# Altium integrated library Renesas Microcontroller H8S.IntLib: 670 symbols (part 35 of 70)
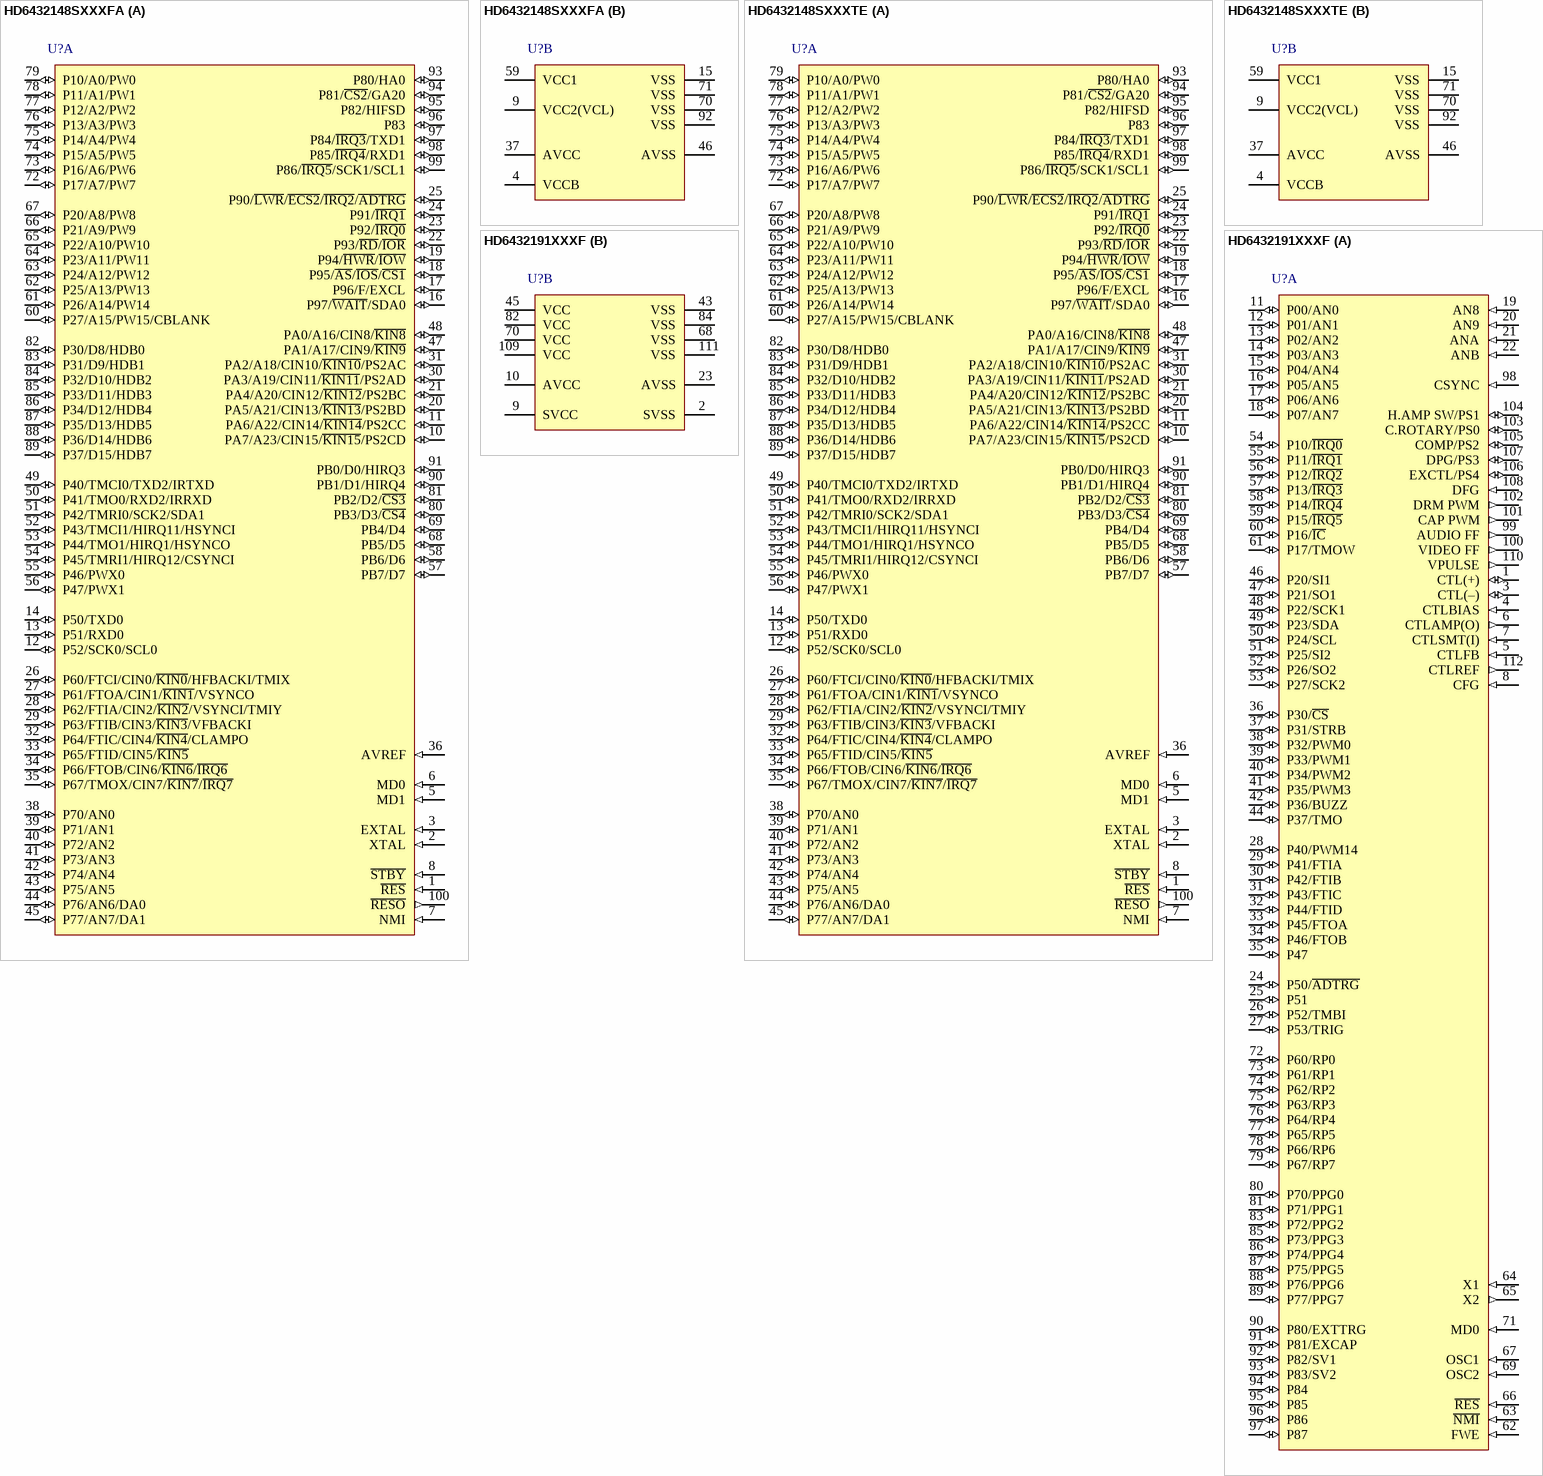
[diagram p262: symbols HD6432148SXXXFA to HD6432191XXXF]

## HD6432148SXXXTE
designator U?
Mask ROM H8S/2100 Series, 2148 Group MCU, 128K ROM, 4K RAM, TFP-100B Pkg; Published: 28-Aug-2009; DatasheetVersion: Rev.4.00, Sep-2006; PackageVersion: Sep-2005; PackageReference: PTQP0100KA-A; Publisher: Altium Limited; PackageDescription: 100-Pin Plastic Thin Quad Flat Pack, 14 x 14 x 1.0 mm Body, 0.5 mm Pitch; Code_JEITA: P-TQFP100-14x14-0.50; ComponentLink1Description: Manufacturer Link; ComponentLink1URL: http://sg.renesas.com/fmwk.jsp?cnt=h8s_family_landing.jsp&fp=/products/mpumcu/h8s_family/; ComponentLink2Description: Datasheet; ComponentLink2URL: http://documentation.renesas.com/eng/products/mpumcu/rej09b0327_2148hm.pdf; ComponentLink3Description: Packaging Specification; ComponentLink3URL: http://sg.renesas.com/media/products/common_info/package/pdf/ic/code/ptqp0100ka_a.pdf
footprint PTQP0100KA-A_N (Thin QFP, 100-Leads, Body 14x14mm, Pitch 0.5mm, IPC Medium Density)
footprint PTQP0100KA-A_L (Thin QFP, 100-Leads, Body 14x14mm, Pitch 0.5mm, IPC High Density)
footprint PTQP0100KA-A_M (Thin QFP, 100-Leads, Body 14x14mm, Pitch 0.5mm, IPC Low Density)
part A pins: 1 ~{RES} (in), 2 XTAL (in), 3 EXTAL (in), 5 MD1 (in), 6 MD0 (in), 7 NMI (in), 8 ~{STBY} (in), 10 PA7/A23/CIN15/~{KIN15}/PS2CD (io), 11 PA6/A22/CIN14/~{KIN14}/PS2CC (io), 12 P52/SCK0/SCL0 (io), 13 P51/RXD0 (io), 14 P50/TXD0 (io), 16 P97/~{WAIT}/SDA0 (io), 17 P96/F/EXCL (io), 18 P95/~{AS}/~{IOS}/~{CS1} (io), 19 P94/~{HWR}/~{IOW} (io), 20 PA5/A21/CIN13/~{KIN13}/PS2BD (io), 21 PA4/A20/CIN12/~{KIN12}/PS2BC (io), 22 P93/~{RD}/~{IOR} (io), 23 P92/~{IRQ0} (io), 24 P91/~{IRQ1} (io), 25 P90/~{LWR}/~{ECS2}/~{IRQ2}/~{ADTRG} (io), 26 P60/FTCI/CIN0/~{KIN0}/HFBACKI/TMIX (io), 27 P61/FTOA/CIN1/~{KIN1}/VSYNCO (io), 28 P62/FTIA/CIN2/~{KIN2}/VSYNCI/TMIY (io), 29 P63/FTIB/CIN3/~{KIN3}/VFBACKI (io), 30 PA3/A19/CIN11/~{KIN11}/PS2AD (io), 31 PA2/A18/CIN10/~{KIN10}/PS2AC (io), 32 P64/FTIC/CIN4/~{KIN4}/CLAMPO (io), 33 P65/FTID/CIN5/~{KIN5} (io), 34 P66/FTOB/CIN6/~{KIN6}/~{IRQ6} (io), 35 P67/TMOX/CIN7/~{KIN7}/~{IRQ7} (io), 36 AVREF (in), 38 P70/AN0 (io), 39 P71/AN1 (io), 40 P72/AN2 (io), 41 P73/AN3 (io), 42 P74/AN4 (io), 43 P75/AN5 (io), 44 P76/AN6/DA0 (io), 45 P77/AN7/DA1 (io), 47 PA1/A17/CIN9/~{KIN9} (io), 48 PA0/A16/CIN8/~{KIN8} (io), 49 P40/TMCI0/TXD2/IRTXD (io), 50 P41/TMO0/RXD2/IRRXD (io), 51 P42/TMRI0/SCK2/SDA1 (io), 52 P43/TMCI1/HIRQ11/HSYNCI (io), 53 P44/TMO1/HIRQ1/HSYNCO (io), 54 P45/TMRI1/HIRQ12/CSYNCI (io), 55 P46/PWX0 (io), 56 P47/PWX1 (io), 57 PB7/D7 (io), 58 PB6/D6 (io), 60 P27/A15/PW15/CBLANK (io), 61 P26/A14/PW14 (io), 62 P25/A13/PW13 (io), 63 P24/A12/PW12 (io), 64 P23/A11/PW11 (io), 65 P22/A10/PW10 (io), 66 P21/A9/PW9 (io), 67 P20/A8/PW8 (io), 68 PB5/D5 (io), 69 PB4/D4 (io), 72 P17/A7/PW7 (io), 73 P16/A6/PW6 (io), 74 P15/A5/PW5 (io), 75 P14/A4/PW4 (io), 76 P13/A3/PW3 (io), 77 P12/A2/PW2 (io), 78 P11/A1/PW1 (io), 79 P10/A0/PW0 (io), 80 PB3/D3/~{CS4} (io), 81 PB2/D2/~{CS3} (io), 82 P30/D8/HDB0 (io), 83 P31/D9/HDB1 (io), 84 P32/D10/HDB2 (io), 85 P33/D11/HDB3 (io), 86 P34/D12/HDB4 (io), 87 P35/D13/HDB5 (io), 88 P36/D14/HDB6 (io), 89 P37/D15/HDB7 (io), 90 PB1/D1/HIRQ4 (io), 91 PB0/D0/HIRQ3 (io), 93 P80/HA0 (io), 94 P81/~{CS2}/GA20 (io), 95 P82/HIFSD (io), 96 P83 (io), 97 P84/~{IRQ3}/TXD1 (io), 98 P85/~{IRQ4}/RXD1 (io), 99 P86/~{IRQ5}/SCK1/SCL1 (io), 100 ~{RESO} (out)
part B pins: 4 VCCB (power), 9 VCC2(VCL), 15 VSS (power), 37 AVCC (power), 46 AVSS (power), 59 VCC1 (power), 70 VSS (power), 71 VSS (power), 92 VSS (power)

## HD6432191XXXF
designator U?
Mask ROM H8S/2100 Series, 2194 Group MCU, 80K ROM, 3K RAM, FP-112 Pkg; Published: 28-Aug-2009; DatasheetVersion: Rev.3.00, Jan-2007; PackageVersion: Sep-2005; PackageReference: PRQP0112JA-A; Publisher: Altium Limited; PackageDescription: 112-Pin Plastic Quad Flat Pack, 20 x 20 x 2.7 mm Body, 0.65 mm Pitch; Code_JEITA: P-QFP112-20x20-0.65; ComponentLink1Description: Manufacturer Link; ComponentLink1URL: http://sg.renesas.com/fmwk.jsp?cnt=h8s_family_landing.jsp&fp=/products/mpumcu/h8s_family/; ComponentLink2Description: Datasheet; ComponentLink2URL: http://documentation.renesas.com/eng/products/mpumcu/rej09b0328_2194hm.pdf; ComponentLink3Description: Packaging Specification; ComponentLink3URL: http://sg.renesas.com/media/products/common_info/package/pdf/ic/code/prqp0112ja_a.pdf
footprint PRQP0112JA-A_N (QFP, 112-Leads, Body 20x20mm, Pitch 0.65mm, IPC Medium Density)
footprint PRQP0112JA-A_L (QFP, 112-Leads, Body 20x20mm, Pitch 0.65mm, IPC High Density)
footprint PRQP0112JA-A_M (QFP, 112-Leads, Body 20x20mm, Pitch 0.65mm, IPC Low Density)
part A pins: 1 CTL(+) (io), 3 CTL(–) (io), 4 CTLBIAS (in), 5 CTLFB (in), 6 CTLAMP(O) (out), 7 CTLSMT(I) (in), 8 CFG (in), 11 P00/AN0 (io), 12 P01/AN1 (io), 13 P02/AN2 (io), 14 P03/AN3 (io), 15 P04/AN4 (io), 16 P05/AN5 (io), 17 P06/AN6 (io), 18 P07/AN7 (io), 19 AN8 (in), 20 AN9 (in), 21 ANA (in), 22 ANB (in), 24 P50/~{ADTRG} (io), 25 P51 (io), 26 P52/TMBI (io), 27 P53/TRIG (io), 28 P40/PWM14 (io), 29 P41/FTIA (io), 30 P42/FTIB (io), 31 P43/FTIC (io), 32 P44/FTID (io), 33 P45/FTOA (io), 34 P46/FTOB (io), 35 P47 (io), 36 P30/~{CS} (io), 37 P31/STRB (io), 38 P32/PWM0 (io), 39 P33/PWM1 (io), 40 P34/PWM2 (io), 41 P35/PWM3 (io), 42 P36/BUZZ (io), 44 P37/TMO (io), 46 P20/SI1 (io), 47 P21/SO1 (io), 48 P22/SCK1 (io), 49 P23/SDA (io), 50 P24/SCL (io), 51 P25/SI2 (io), 52 P26/SO2 (io), 53 P27/SCK2 (io), 54 P10/~{IRQ0} (io), 55 P11/~{IRQ1} (io), 56 P12/~{IRQ2} (io), 57 P13/~{IRQ3} (io), 58 P14/~{IRQ4} (io), 59 P15/~{IRQ5} (io), 60 P16/~{IC} (io), 61 P17/TMOW (io), 62 FWE (in), 63 ~{NMI} (in), 64 X1 (in), 65 X2 (out), 66 ~{RES} (in), 67 OSC1 (in), 69 OSC2 (in), 71 MD0 (in), 72 P60/RP0 (io), 73 P61/RP1 (io), 74 P62/RP2 (io), 75 P63/RP3 (io), 76 P64/RP4 (io), 77 P65/RP5 (io), 78 P66/RP6 (io), 79 P67/RP7 (io), 80 P70/PPG0 (io), 81 P71/PPG1 (io), 83 P72/PPG2 (io), 85 P73/PPG3 (io), 86 P74/PPG4 (io), 87 P75/PPG5 (io), 88 P76/PPG6 (io), 89 P77/PPG7 (io), 90 P80/EXTTRG (io), 91 P81/EXCAP (io), 92 P82/SV1 (io), 93 P83/SV2 (io), 94 P84 (io), 95 P85 (io), 96 P86 (io), 97 P87 (io), 98 CSYNC (in), 99 AUDIO FF (out), 100 VIDEO FF (out), 101 CAP PWM (out), 102 DRM PWM (out), 103 C.ROTARY/PS0 (io), 104 H.AMP SW/PS1 (io), 105 COMP/PS2 (io), 106 EXCTL/PS4 (io), 107 DPG/PS3 (io), 108 DFG (in), 110 VPULSE (out), 112 CTLREF (out)
part B pins: 2 SVSS (power), 9 SVCC (power), 10 AVCC (power), 23 AVSS (power), 43 VSS (power), 45 VCC (power), 68 VSS (power), 70 VCC (power), 82 VCC (power), 84 VSS (power), 109 VCC (power), 111 VSS (power)

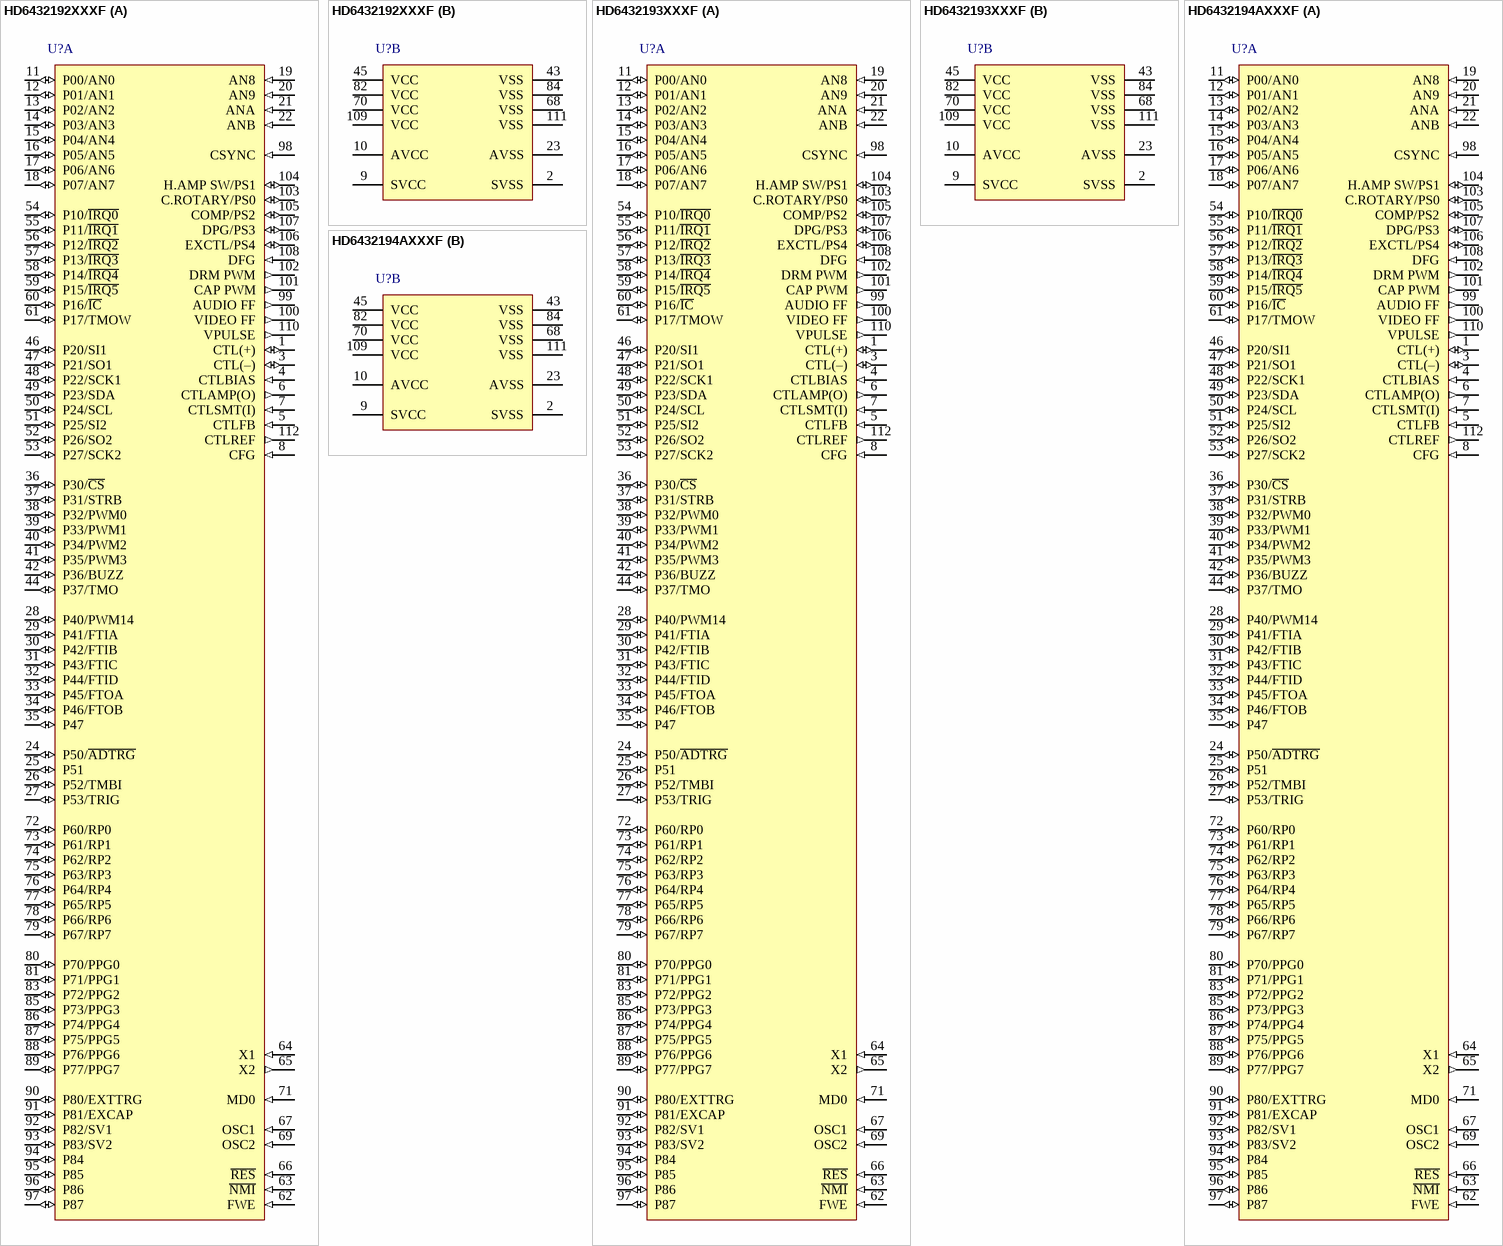
[diagram p120: symbols HD6432192XXXF to HD6432194AXXXF]

## HD6432192XXXF
designator U?
Mask ROM H8S/2100 Series, 2194 Group MCU, 96K ROM, 3K RAM, FP-112 Pkg; Published: 28-Aug-2009; DatasheetVersion: Rev.3.00, Jan-2007; PackageVersion: Sep-2005; PackageReference: PRQP0112JA-A; Publisher: Altium Limited; PackageDescription: 112-Pin Plastic Quad Flat Pack, 20 x 20 x 2.7 mm Body, 0.65 mm Pitch; Code_JEITA: P-QFP112-20x20-0.65; ComponentLink1Description: Manufacturer Link; ComponentLink1URL: http://sg.renesas.com/fmwk.jsp?cnt=h8s_family_landing.jsp&fp=/products/mpumcu/h8s_family/; ComponentLink2Description: Datasheet; ComponentLink2URL: http://documentation.renesas.com/eng/products/mpumcu/rej09b0328_2194hm.pdf; ComponentLink3Description: Packaging Specification; ComponentLink3URL: http://sg.renesas.com/media/products/common_info/package/pdf/ic/code/prqp0112ja_a.pdf
footprint PRQP0112JA-A_N (QFP, 112-Leads, Body 20x20mm, Pitch 0.65mm, IPC Medium Density)
footprint PRQP0112JA-A_L (QFP, 112-Leads, Body 20x20mm, Pitch 0.65mm, IPC High Density)
footprint PRQP0112JA-A_M (QFP, 112-Leads, Body 20x20mm, Pitch 0.65mm, IPC Low Density)
part A pins: 1 CTL(+) (io), 3 CTL(–) (io), 4 CTLBIAS (in), 5 CTLFB (in), 6 CTLAMP(O) (out), 7 CTLSMT(I) (in), 8 CFG (in), 11 P00/AN0 (io), 12 P01/AN1 (io), 13 P02/AN2 (io), 14 P03/AN3 (io), 15 P04/AN4 (io), 16 P05/AN5 (io), 17 P06/AN6 (io), 18 P07/AN7 (io), 19 AN8 (in), 20 AN9 (in), 21 ANA (in), 22 ANB (in), 24 P50/~{ADTRG} (io), 25 P51 (io), 26 P52/TMBI (io), 27 P53/TRIG (io), 28 P40/PWM14 (io), 29 P41/FTIA (io), 30 P42/FTIB (io), 31 P43/FTIC (io), 32 P44/FTID (io), 33 P45/FTOA (io), 34 P46/FTOB (io), 35 P47 (io), 36 P30/~{CS} (io), 37 P31/STRB (io), 38 P32/PWM0 (io), 39 P33/PWM1 (io), 40 P34/PWM2 (io), 41 P35/PWM3 (io), 42 P36/BUZZ (io), 44 P37/TMO (io), 46 P20/SI1 (io), 47 P21/SO1 (io), 48 P22/SCK1 (io), 49 P23/SDA (io), 50 P24/SCL (io), 51 P25/SI2 (io), 52 P26/SO2 (io), 53 P27/SCK2 (io), 54 P10/~{IRQ0} (io), 55 P11/~{IRQ1} (io), 56 P12/~{IRQ2} (io), 57 P13/~{IRQ3} (io), 58 P14/~{IRQ4} (io), 59 P15/~{IRQ5} (io), 60 P16/~{IC} (io), 61 P17/TMOW (io), 62 FWE (in), 63 ~{NMI} (in), 64 X1 (in), 65 X2 (out), 66 ~{RES} (in), 67 OSC1 (in), 69 OSC2 (in), 71 MD0 (in), 72 P60/RP0 (io), 73 P61/RP1 (io), 74 P62/RP2 (io), 75 P63/RP3 (io), 76 P64/RP4 (io), 77 P65/RP5 (io), 78 P66/RP6 (io), 79 P67/RP7 (io), 80 P70/PPG0 (io), 81 P71/PPG1 (io), 83 P72/PPG2 (io), 85 P73/PPG3 (io), 86 P74/PPG4 (io), 87 P75/PPG5 (io), 88 P76/PPG6 (io), 89 P77/PPG7 (io), 90 P80/EXTTRG (io), 91 P81/EXCAP (io), 92 P82/SV1 (io), 93 P83/SV2 (io), 94 P84 (io), 95 P85 (io), 96 P86 (io), 97 P87 (io), 98 CSYNC (in), 99 AUDIO FF (out), 100 VIDEO FF (out), 101 CAP PWM (out), 102 DRM PWM (out), 103 C.ROTARY/PS0 (io), 104 H.AMP SW/PS1 (io), 105 COMP/PS2 (io), 106 EXCTL/PS4 (io), 107 DPG/PS3 (io), 108 DFG (in), 110 VPULSE (out), 112 CTLREF (out)
part B pins: 2 SVSS (power), 9 SVCC (power), 10 AVCC (power), 23 AVSS (power), 43 VSS (power), 45 VCC (power), 68 VSS (power), 70 VCC (power), 82 VCC (power), 84 VSS (power), 109 VCC (power), 111 VSS (power)

## HD6432193XXXF
designator U?
Mask ROM H8S/2100 Series, 2194 Group MCU, 112K ROM, 3K RAM, FP-112 Pkg; Published: 28-Aug-2009; DatasheetVersion: Rev.3.00, Jan-2007; PackageVersion: Sep-2005; PackageReference: PRQP0112JA-A; Publisher: Altium Limited; PackageDescription: 112-Pin Plastic Quad Flat Pack, 20 x 20 x 2.7 mm Body, 0.65 mm Pitch; Code_JEITA: P-QFP112-20x20-0.65; ComponentLink1Description: Manufacturer Link; ComponentLink1URL: http://sg.renesas.com/fmwk.jsp?cnt=h8s_family_landing.jsp&fp=/products/mpumcu/h8s_family/; ComponentLink2Description: Datasheet; ComponentLink2URL: http://documentation.renesas.com/eng/products/mpumcu/rej09b0328_2194hm.pdf; ComponentLink3Description: Packaging Specification; ComponentLink3URL: http://sg.renesas.com/media/products/common_info/package/pdf/ic/code/prqp0112ja_a.pdf
footprint PRQP0112JA-A_N (QFP, 112-Leads, Body 20x20mm, Pitch 0.65mm, IPC Medium Density)
footprint PRQP0112JA-A_L (QFP, 112-Leads, Body 20x20mm, Pitch 0.65mm, IPC High Density)
footprint PRQP0112JA-A_M (QFP, 112-Leads, Body 20x20mm, Pitch 0.65mm, IPC Low Density)
part A pins: 1 CTL(+) (io), 3 CTL(–) (io), 4 CTLBIAS (in), 5 CTLFB (in), 6 CTLAMP(O) (out), 7 CTLSMT(I) (in), 8 CFG (in), 11 P00/AN0 (io), 12 P01/AN1 (io), 13 P02/AN2 (io), 14 P03/AN3 (io), 15 P04/AN4 (io), 16 P05/AN5 (io), 17 P06/AN6 (io), 18 P07/AN7 (io), 19 AN8 (in), 20 AN9 (in), 21 ANA (in), 22 ANB (in), 24 P50/~{ADTRG} (io), 25 P51 (io), 26 P52/TMBI (io), 27 P53/TRIG (io), 28 P40/PWM14 (io), 29 P41/FTIA (io), 30 P42/FTIB (io), 31 P43/FTIC (io), 32 P44/FTID (io), 33 P45/FTOA (io), 34 P46/FTOB (io), 35 P47 (io), 36 P30/~{CS} (io), 37 P31/STRB (io), 38 P32/PWM0 (io), 39 P33/PWM1 (io), 40 P34/PWM2 (io), 41 P35/PWM3 (io), 42 P36/BUZZ (io), 44 P37/TMO (io), 46 P20/SI1 (io), 47 P21/SO1 (io), 48 P22/SCK1 (io), 49 P23/SDA (io), 50 P24/SCL (io), 51 P25/SI2 (io), 52 P26/SO2 (io), 53 P27/SCK2 (io), 54 P10/~{IRQ0} (io), 55 P11/~{IRQ1} (io), 56 P12/~{IRQ2} (io), 57 P13/~{IRQ3} (io), 58 P14/~{IRQ4} (io), 59 P15/~{IRQ5} (io), 60 P16/~{IC} (io), 61 P17/TMOW (io), 62 FWE (in), 63 ~{NMI} (in), 64 X1 (in), 65 X2 (out), 66 ~{RES} (in), 67 OSC1 (in), 69 OSC2 (in), 71 MD0 (in), 72 P60/RP0 (io), 73 P61/RP1 (io), 74 P62/RP2 (io), 75 P63/RP3 (io), 76 P64/RP4 (io), 77 P65/RP5 (io), 78 P66/RP6 (io), 79 P67/RP7 (io), 80 P70/PPG0 (io), 81 P71/PPG1 (io), 83 P72/PPG2 (io), 85 P73/PPG3 (io), 86 P74/PPG4 (io), 87 P75/PPG5 (io), 88 P76/PPG6 (io), 89 P77/PPG7 (io), 90 P80/EXTTRG (io), 91 P81/EXCAP (io), 92 P82/SV1 (io), 93 P83/SV2 (io), 94 P84 (io), 95 P85 (io), 96 P86 (io), 97 P87 (io), 98 CSYNC (in), 99 AUDIO FF (out), 100 VIDEO FF (out), 101 CAP PWM (out), 102 DRM PWM (out), 103 C.ROTARY/PS0 (io), 104 H.AMP SW/PS1 (io), 105 COMP/PS2 (io), 106 EXCTL/PS4 (io), 107 DPG/PS3 (io), 108 DFG (in), 110 VPULSE (out), 112 CTLREF (out)
part B pins: 2 SVSS (power), 9 SVCC (power), 10 AVCC (power), 23 AVSS (power), 43 VSS (power), 45 VCC (power), 68 VSS (power), 70 VCC (power), 82 VCC (power), 84 VSS (power), 109 VCC (power), 111 VSS (power)

## HD6432194AXXXF
designator U?
Mask ROM H8S/2100 Series, 2194 Group MCU, 160K ROM, 6K RAM, FP-112 Pkg; Published: 28-Aug-2009; DatasheetVersion: Rev.3.00, Jan-2007; PackageVersion: Sep-2005; PackageReference: PRQP0112JA-A; Publisher: Altium Limited; PackageDescription: 112-Pin Plastic Quad Flat Pack, 20 x 20 x 2.7 mm Body, 0.65 mm Pitch; Code_JEITA: P-QFP112-20x20-0.65; ComponentLink1Description: Manufacturer Link; ComponentLink1URL: http://sg.renesas.com/fmwk.jsp?cnt=h8s_family_landing.jsp&fp=/products/mpumcu/h8s_family/; ComponentLink2Description: Datasheet; ComponentLink2URL: http://documentation.renesas.com/eng/products/mpumcu/rej09b0328_2194hm.pdf; ComponentLink3Description: Packaging Specification; ComponentLink3URL: http://sg.renesas.com/media/products/common_info/package/pdf/ic/code/prqp0112ja_a.pdf
footprint PRQP0112JA-A_N (QFP, 112-Leads, Body 20x20mm, Pitch 0.65mm, IPC Medium Density)
footprint PRQP0112JA-A_L (QFP, 112-Leads, Body 20x20mm, Pitch 0.65mm, IPC High Density)
footprint PRQP0112JA-A_M (QFP, 112-Leads, Body 20x20mm, Pitch 0.65mm, IPC Low Density)
part A pins: 1 CTL(+) (io), 3 CTL(–) (io), 4 CTLBIAS (in), 5 CTLFB (in), 6 CTLAMP(O) (out), 7 CTLSMT(I) (in), 8 CFG (in), 11 P00/AN0 (io), 12 P01/AN1 (io), 13 P02/AN2 (io), 14 P03/AN3 (io), 15 P04/AN4 (io), 16 P05/AN5 (io), 17 P06/AN6 (io), 18 P07/AN7 (io), 19 AN8 (in), 20 AN9 (in), 21 ANA (in), 22 ANB (in), 24 P50/~{ADTRG} (io), 25 P51 (io), 26 P52/TMBI (io), 27 P53/TRIG (io), 28 P40/PWM14 (io), 29 P41/FTIA (io), 30 P42/FTIB (io), 31 P43/FTIC (io), 32 P44/FTID (io), 33 P45/FTOA (io), 34 P46/FTOB (io), 35 P47 (io), 36 P30/~{CS} (io), 37 P31/STRB (io), 38 P32/PWM0 (io), 39 P33/PWM1 (io), 40 P34/PWM2 (io), 41 P35/PWM3 (io), 42 P36/BUZZ (io), 44 P37/TMO (io), 46 P20/SI1 (io), 47 P21/SO1 (io), 48 P22/SCK1 (io), 49 P23/SDA (io), 50 P24/SCL (io), 51 P25/SI2 (io), 52 P26/SO2 (io), 53 P27/SCK2 (io), 54 P10/~{IRQ0} (io), 55 P11/~{IRQ1} (io), 56 P12/~{IRQ2} (io), 57 P13/~{IRQ3} (io), 58 P14/~{IRQ4} (io), 59 P15/~{IRQ5} (io), 60 P16/~{IC} (io), 61 P17/TMOW (io), 62 FWE (in), 63 ~{NMI} (in), 64 X1 (in), 65 X2 (out), 66 ~{RES} (in), 67 OSC1 (in), 69 OSC2 (in), 71 MD0 (in), 72 P60/RP0 (io), 73 P61/RP1 (io), 74 P62/RP2 (io), 75 P63/RP3 (io), 76 P64/RP4 (io), 77 P65/RP5 (io), 78 P66/RP6 (io), 79 P67/RP7 (io), 80 P70/PPG0 (io), 81 P71/PPG1 (io), 83 P72/PPG2 (io), 85 P73/PPG3 (io), 86 P74/PPG4 (io), 87 P75/PPG5 (io), 88 P76/PPG6 (io), 89 P77/PPG7 (io), 90 P80/EXTTRG (io), 91 P81/EXCAP (io), 92 P82/SV1 (io), 93 P83/SV2 (io), 94 P84 (io), 95 P85 (io), 96 P86 (io), 97 P87 (io), 98 CSYNC (in), 99 AUDIO FF (out), 100 VIDEO FF (out), 101 CAP PWM (out), 102 DRM PWM (out), 103 C.ROTARY/PS0 (io), 104 H.AMP SW/PS1 (io), 105 COMP/PS2 (io), 106 EXCTL/PS4 (io), 107 DPG/PS3 (io), 108 DFG (in), 110 VPULSE (out), 112 CTLREF (out)
part B pins: 2 SVSS (power), 9 SVCC (power), 10 AVCC (power), 23 AVSS (power), 43 VSS (power), 45 VCC (power), 68 VSS (power), 70 VCC (power), 82 VCC (power), 84 VSS (power), 109 VCC (power), 111 VSS (power)

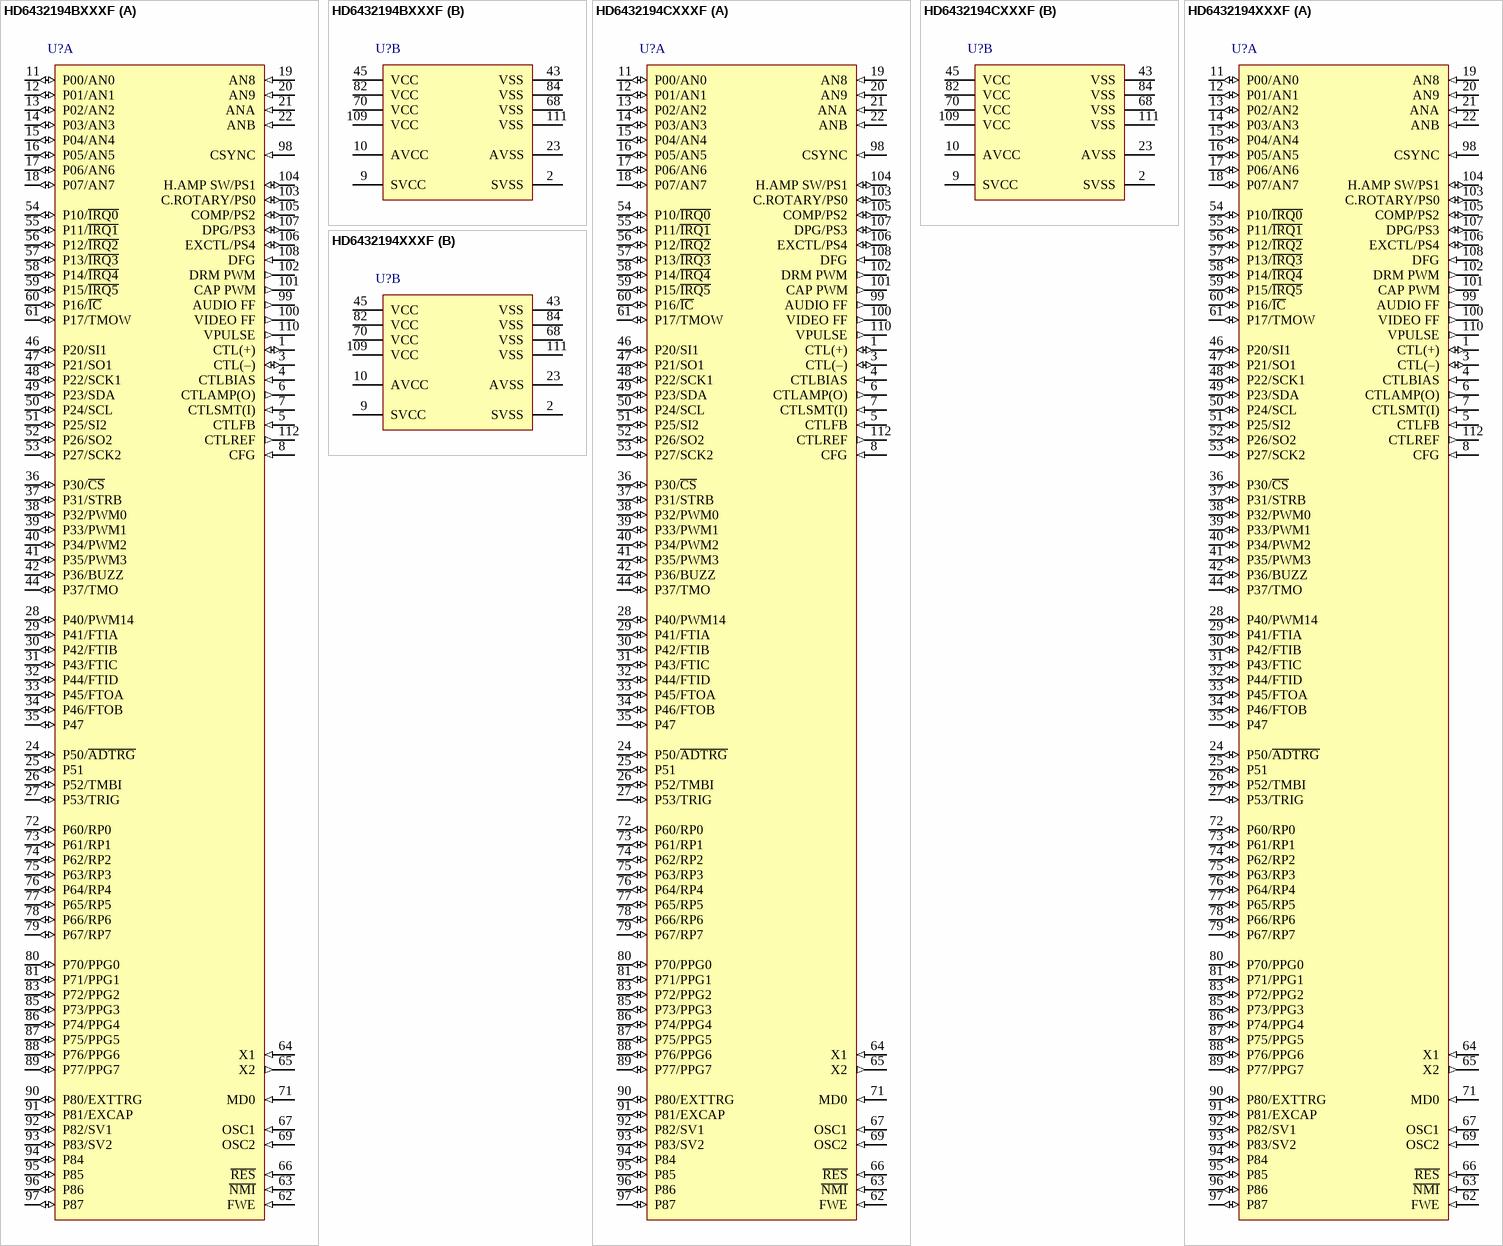
[diagram p121: symbols HD6432194BXXXF to HD6432194XXXF]

## HD6432194BXXXF
designator U?
Mask ROM H8S/2100 Series, 2194 Group MCU, 192K ROM, 6K RAM, FP-112 Pkg; Published: 28-Aug-2009; DatasheetVersion: Rev.3.00, Jan-2007; PackageVersion: Sep-2005; PackageReference: PRQP0112JA-A; Publisher: Altium Limited; PackageDescription: 112-Pin Plastic Quad Flat Pack, 20 x 20 x 2.7 mm Body, 0.65 mm Pitch; Code_JEITA: P-QFP112-20x20-0.65; ComponentLink1Description: Manufacturer Link; ComponentLink1URL: http://sg.renesas.com/fmwk.jsp?cnt=h8s_family_landing.jsp&fp=/products/mpumcu/h8s_family/; ComponentLink2Description: Datasheet; ComponentLink2URL: http://documentation.renesas.com/eng/products/mpumcu/rej09b0328_2194hm.pdf; ComponentLink3Description: Packaging Specification; ComponentLink3URL: http://sg.renesas.com/media/products/common_info/package/pdf/ic/code/prqp0112ja_a.pdf
footprint PRQP0112JA-A_N (QFP, 112-Leads, Body 20x20mm, Pitch 0.65mm, IPC Medium Density)
footprint PRQP0112JA-A_L (QFP, 112-Leads, Body 20x20mm, Pitch 0.65mm, IPC High Density)
footprint PRQP0112JA-A_M (QFP, 112-Leads, Body 20x20mm, Pitch 0.65mm, IPC Low Density)
part A pins: 1 CTL(+) (io), 3 CTL(–) (io), 4 CTLBIAS (in), 5 CTLFB (in), 6 CTLAMP(O) (out), 7 CTLSMT(I) (in), 8 CFG (in), 11 P00/AN0 (io), 12 P01/AN1 (io), 13 P02/AN2 (io), 14 P03/AN3 (io), 15 P04/AN4 (io), 16 P05/AN5 (io), 17 P06/AN6 (io), 18 P07/AN7 (io), 19 AN8 (in), 20 AN9 (in), 21 ANA (in), 22 ANB (in), 24 P50/~{ADTRG} (io), 25 P51 (io), 26 P52/TMBI (io), 27 P53/TRIG (io), 28 P40/PWM14 (io), 29 P41/FTIA (io), 30 P42/FTIB (io), 31 P43/FTIC (io), 32 P44/FTID (io), 33 P45/FTOA (io), 34 P46/FTOB (io), 35 P47 (io), 36 P30/~{CS} (io), 37 P31/STRB (io), 38 P32/PWM0 (io), 39 P33/PWM1 (io), 40 P34/PWM2 (io), 41 P35/PWM3 (io), 42 P36/BUZZ (io), 44 P37/TMO (io), 46 P20/SI1 (io), 47 P21/SO1 (io), 48 P22/SCK1 (io), 49 P23/SDA (io), 50 P24/SCL (io), 51 P25/SI2 (io), 52 P26/SO2 (io), 53 P27/SCK2 (io), 54 P10/~{IRQ0} (io), 55 P11/~{IRQ1} (io), 56 P12/~{IRQ2} (io), 57 P13/~{IRQ3} (io), 58 P14/~{IRQ4} (io), 59 P15/~{IRQ5} (io), 60 P16/~{IC} (io), 61 P17/TMOW (io), 62 FWE (in), 63 ~{NMI} (in), 64 X1 (in), 65 X2 (out), 66 ~{RES} (in), 67 OSC1 (in), 69 OSC2 (in), 71 MD0 (in), 72 P60/RP0 (io), 73 P61/RP1 (io), 74 P62/RP2 (io), 75 P63/RP3 (io), 76 P64/RP4 (io), 77 P65/RP5 (io), 78 P66/RP6 (io), 79 P67/RP7 (io), 80 P70/PPG0 (io), 81 P71/PPG1 (io), 83 P72/PPG2 (io), 85 P73/PPG3 (io), 86 P74/PPG4 (io), 87 P75/PPG5 (io), 88 P76/PPG6 (io), 89 P77/PPG7 (io), 90 P80/EXTTRG (io), 91 P81/EXCAP (io), 92 P82/SV1 (io), 93 P83/SV2 (io), 94 P84 (io), 95 P85 (io), 96 P86 (io), 97 P87 (io), 98 CSYNC (in), 99 AUDIO FF (out), 100 VIDEO FF (out), 101 CAP PWM (out), 102 DRM PWM (out), 103 C.ROTARY/PS0 (io), 104 H.AMP SW/PS1 (io), 105 COMP/PS2 (io), 106 EXCTL/PS4 (io), 107 DPG/PS3 (io), 108 DFG (in), 110 VPULSE (out), 112 CTLREF (out)
part B pins: 2 SVSS (power), 9 SVCC (power), 10 AVCC (power), 23 AVSS (power), 43 VSS (power), 45 VCC (power), 68 VSS (power), 70 VCC (power), 82 VCC (power), 84 VSS (power), 109 VCC (power), 111 VSS (power)

## HD6432194CXXXF
designator U?
Mask ROM H8S/2100 Series, 2194 Group MCU, 256K ROM, 6K RAM, FP-112 Pkg; Published: 28-Aug-2009; DatasheetVersion: Rev.3.00, Jan-2007; PackageVersion: Sep-2005; PackageReference: PRQP0112JA-A; Publisher: Altium Limited; PackageDescription: 112-Pin Plastic Quad Flat Pack, 20 x 20 x 2.7 mm Body, 0.65 mm Pitch; Code_JEITA: P-QFP112-20x20-0.65; ComponentLink1Description: Manufacturer Link; ComponentLink1URL: http://sg.renesas.com/fmwk.jsp?cnt=h8s_family_landing.jsp&fp=/products/mpumcu/h8s_family/; ComponentLink2Description: Datasheet; ComponentLink2URL: http://documentation.renesas.com/eng/products/mpumcu/rej09b0328_2194hm.pdf; ComponentLink3Description: Packaging Specification; ComponentLink3URL: http://sg.renesas.com/media/products/common_info/package/pdf/ic/code/prqp0112ja_a.pdf
footprint PRQP0112JA-A_N (QFP, 112-Leads, Body 20x20mm, Pitch 0.65mm, IPC Medium Density)
footprint PRQP0112JA-A_L (QFP, 112-Leads, Body 20x20mm, Pitch 0.65mm, IPC High Density)
footprint PRQP0112JA-A_M (QFP, 112-Leads, Body 20x20mm, Pitch 0.65mm, IPC Low Density)
part A pins: 1 CTL(+) (io), 3 CTL(–) (io), 4 CTLBIAS (in), 5 CTLFB (in), 6 CTLAMP(O) (out), 7 CTLSMT(I) (in), 8 CFG (in), 11 P00/AN0 (io), 12 P01/AN1 (io), 13 P02/AN2 (io), 14 P03/AN3 (io), 15 P04/AN4 (io), 16 P05/AN5 (io), 17 P06/AN6 (io), 18 P07/AN7 (io), 19 AN8 (in), 20 AN9 (in), 21 ANA (in), 22 ANB (in), 24 P50/~{ADTRG} (io), 25 P51 (io), 26 P52/TMBI (io), 27 P53/TRIG (io), 28 P40/PWM14 (io), 29 P41/FTIA (io), 30 P42/FTIB (io), 31 P43/FTIC (io), 32 P44/FTID (io), 33 P45/FTOA (io), 34 P46/FTOB (io), 35 P47 (io), 36 P30/~{CS} (io), 37 P31/STRB (io), 38 P32/PWM0 (io), 39 P33/PWM1 (io), 40 P34/PWM2 (io), 41 P35/PWM3 (io), 42 P36/BUZZ (io), 44 P37/TMO (io), 46 P20/SI1 (io), 47 P21/SO1 (io), 48 P22/SCK1 (io), 49 P23/SDA (io), 50 P24/SCL (io), 51 P25/SI2 (io), 52 P26/SO2 (io), 53 P27/SCK2 (io), 54 P10/~{IRQ0} (io), 55 P11/~{IRQ1} (io), 56 P12/~{IRQ2} (io), 57 P13/~{IRQ3} (io), 58 P14/~{IRQ4} (io), 59 P15/~{IRQ5} (io), 60 P16/~{IC} (io), 61 P17/TMOW (io), 62 FWE (in), 63 ~{NMI} (in), 64 X1 (in), 65 X2 (out), 66 ~{RES} (in), 67 OSC1 (in), 69 OSC2 (in), 71 MD0 (in), 72 P60/RP0 (io), 73 P61/RP1 (io), 74 P62/RP2 (io), 75 P63/RP3 (io), 76 P64/RP4 (io), 77 P65/RP5 (io), 78 P66/RP6 (io), 79 P67/RP7 (io), 80 P70/PPG0 (io), 81 P71/PPG1 (io), 83 P72/PPG2 (io), 85 P73/PPG3 (io), 86 P74/PPG4 (io), 87 P75/PPG5 (io), 88 P76/PPG6 (io), 89 P77/PPG7 (io), 90 P80/EXTTRG (io), 91 P81/EXCAP (io), 92 P82/SV1 (io), 93 P83/SV2 (io), 94 P84 (io), 95 P85 (io), 96 P86 (io), 97 P87 (io), 98 CSYNC (in), 99 AUDIO FF (out), 100 VIDEO FF (out), 101 CAP PWM (out), 102 DRM PWM (out), 103 C.ROTARY/PS0 (io), 104 H.AMP SW/PS1 (io), 105 COMP/PS2 (io), 106 EXCTL/PS4 (io), 107 DPG/PS3 (io), 108 DFG (in), 110 VPULSE (out), 112 CTLREF (out)
part B pins: 2 SVSS (power), 9 SVCC (power), 10 AVCC (power), 23 AVSS (power), 43 VSS (power), 45 VCC (power), 68 VSS (power), 70 VCC (power), 82 VCC (power), 84 VSS (power), 109 VCC (power), 111 VSS (power)

## HD6432194XXXF
designator U?
Mask ROM H8S/2100 Series, 2194 Group MCU, 128K ROM, 3K RAM, FP-112 Pkg; Published: 28-Aug-2009; DatasheetVersion: Rev.3.00, Jan-2007; PackageVersion: Sep-2005; PackageReference: PRQP0112JA-A; Publisher: Altium Limited; PackageDescription: 112-Pin Plastic Quad Flat Pack, 20 x 20 x 2.7 mm Body, 0.65 mm Pitch; Code_JEITA: P-QFP112-20x20-0.65; ComponentLink1Description: Manufacturer Link; ComponentLink1URL: http://sg.renesas.com/fmwk.jsp?cnt=h8s_family_landing.jsp&fp=/products/mpumcu/h8s_family/; ComponentLink2Description: Datasheet; ComponentLink2URL: http://documentation.renesas.com/eng/products/mpumcu/rej09b0328_2194hm.pdf; ComponentLink3Description: Packaging Specification; ComponentLink3URL: http://sg.renesas.com/media/products/common_info/package/pdf/ic/code/prqp0112ja_a.pdf
footprint PRQP0112JA-A_N (QFP, 112-Leads, Body 20x20mm, Pitch 0.65mm, IPC Medium Density)
footprint PRQP0112JA-A_L (QFP, 112-Leads, Body 20x20mm, Pitch 0.65mm, IPC High Density)
footprint PRQP0112JA-A_M (QFP, 112-Leads, Body 20x20mm, Pitch 0.65mm, IPC Low Density)
part A pins: 1 CTL(+) (io), 3 CTL(–) (io), 4 CTLBIAS (in), 5 CTLFB (in), 6 CTLAMP(O) (out), 7 CTLSMT(I) (in), 8 CFG (in), 11 P00/AN0 (io), 12 P01/AN1 (io), 13 P02/AN2 (io), 14 P03/AN3 (io), 15 P04/AN4 (io), 16 P05/AN5 (io), 17 P06/AN6 (io), 18 P07/AN7 (io), 19 AN8 (in), 20 AN9 (in), 21 ANA (in), 22 ANB (in), 24 P50/~{ADTRG} (io), 25 P51 (io), 26 P52/TMBI (io), 27 P53/TRIG (io), 28 P40/PWM14 (io), 29 P41/FTIA (io), 30 P42/FTIB (io), 31 P43/FTIC (io), 32 P44/FTID (io), 33 P45/FTOA (io), 34 P46/FTOB (io), 35 P47 (io), 36 P30/~{CS} (io), 37 P31/STRB (io), 38 P32/PWM0 (io), 39 P33/PWM1 (io), 40 P34/PWM2 (io), 41 P35/PWM3 (io), 42 P36/BUZZ (io), 44 P37/TMO (io), 46 P20/SI1 (io), 47 P21/SO1 (io), 48 P22/SCK1 (io), 49 P23/SDA (io), 50 P24/SCL (io), 51 P25/SI2 (io), 52 P26/SO2 (io), 53 P27/SCK2 (io), 54 P10/~{IRQ0} (io), 55 P11/~{IRQ1} (io), 56 P12/~{IRQ2} (io), 57 P13/~{IRQ3} (io), 58 P14/~{IRQ4} (io), 59 P15/~{IRQ5} (io), 60 P16/~{IC} (io), 61 P17/TMOW (io), 62 FWE (in), 63 ~{NMI} (in), 64 X1 (in), 65 X2 (out), 66 ~{RES} (in), 67 OSC1 (in), 69 OSC2 (in), 71 MD0 (in), 72 P60/RP0 (io), 73 P61/RP1 (io), 74 P62/RP2 (io), 75 P63/RP3 (io), 76 P64/RP4 (io), 77 P65/RP5 (io), 78 P66/RP6 (io), 79 P67/RP7 (io), 80 P70/PPG0 (io), 81 P71/PPG1 (io), 83 P72/PPG2 (io), 85 P73/PPG3 (io), 86 P74/PPG4 (io), 87 P75/PPG5 (io), 88 P76/PPG6 (io), 89 P77/PPG7 (io), 90 P80/EXTTRG (io), 91 P81/EXCAP (io), 92 P82/SV1 (io), 93 P83/SV2 (io), 94 P84 (io), 95 P85 (io), 96 P86 (io), 97 P87 (io), 98 CSYNC (in), 99 AUDIO FF (out), 100 VIDEO FF (out), 101 CAP PWM (out), 102 DRM PWM (out), 103 C.ROTARY/PS0 (io), 104 H.AMP SW/PS1 (io), 105 COMP/PS2 (io), 106 EXCTL/PS4 (io), 107 DPG/PS3 (io), 108 DFG (in), 110 VPULSE (out), 112 CTLREF (out)
part B pins: 2 SVSS (power), 9 SVCC (power), 10 AVCC (power), 23 AVSS (power), 43 VSS (power), 45 VCC (power), 68 VSS (power), 70 VCC (power), 82 VCC (power), 84 VSS (power), 109 VCC (power), 111 VSS (power)

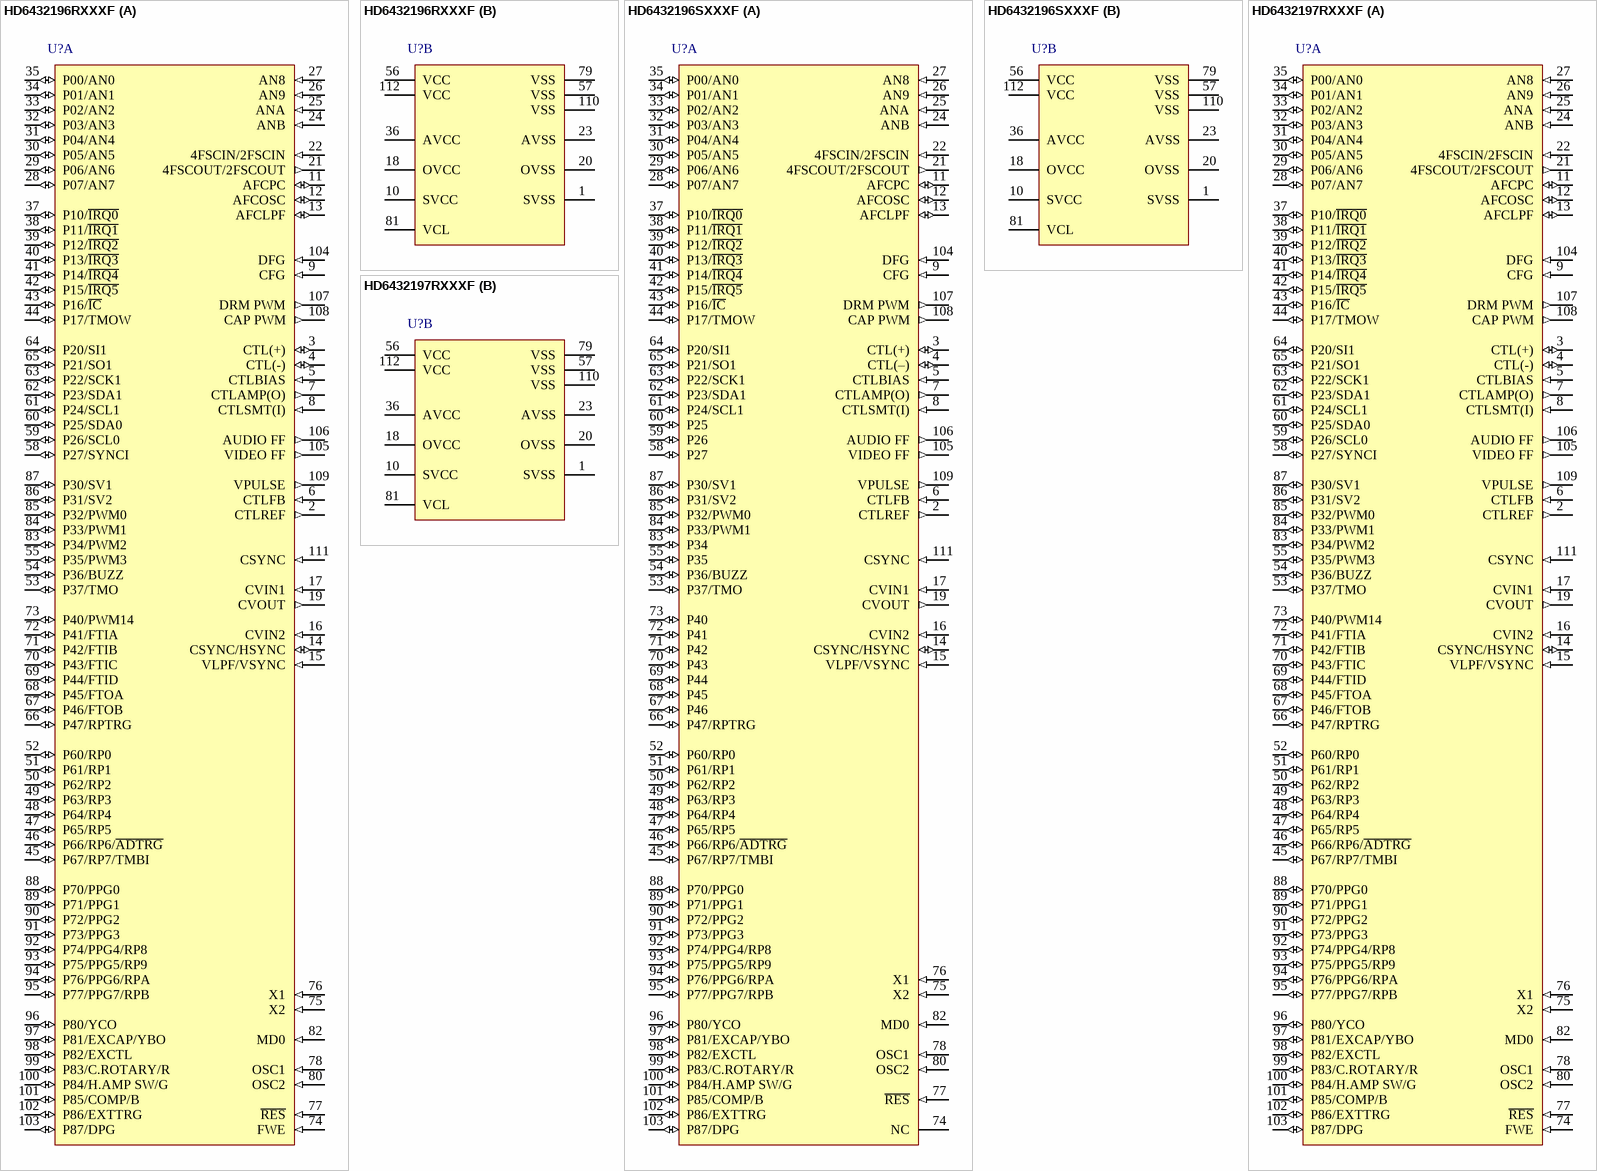
[diagram p122: symbols HD6432196RXXXF to HD6432197RXXXF]

## HD6432196RXXXF
designator U?
Mask ROM H8S/2100 Series, 2199 Group MCU, 80K ROM, 4K RAM, FP-112 Pkg; Published: 28-Aug-2009; DatasheetVersion: Rev.2.00, Jan-2007; PackageVersion: Sep-2005; PackageReference: PRQP0112JA-A; Publisher: Altium Limited; PackageDescription: 112-Pin Plastic Quad Flat Pack, 20 x 20 x 2.7 mm Body, 0.65 mm Pitch; Code_JEITA: P-QFP112-20x20-0.65; ComponentLink1Description: Manufacturer Link; ComponentLink1URL: http://sg.renesas.com/fmwk.jsp?cnt=h8s_family_landing.jsp&fp=/products/mpumcu/h8s_family/; ComponentLink2Description: Datasheet; ComponentLink2URL: http://documentation.renesas.com/eng/products/mpumcu/rej09b0329_2199rhm.pdf; ComponentLink3Description: Packaging Specification; ComponentLink3URL: http://sg.renesas.com/media/products/common_info/package/pdf/ic/code/prqp0112ja_a.pdf
footprint PRQP0112JA-A_N (QFP, 112-Leads, Body 20x20mm, Pitch 0.65mm, IPC Medium Density)
footprint PRQP0112JA-A_L (QFP, 112-Leads, Body 20x20mm, Pitch 0.65mm, IPC High Density)
footprint PRQP0112JA-A_M (QFP, 112-Leads, Body 20x20mm, Pitch 0.65mm, IPC Low Density)
part A pins: 2 CTLREF (out), 3 CTL(+) (io), 4 CTL(-) (io), 5 CTLBIAS (in), 6 CTLFB (in), 7 CTLAMP(O) (out), 8 CTLSMT(I) (in), 9 CFG (in), 11 AFCPC (io), 12 AFCOSC (io), 13 AFCLPF (io), 14 CSYNC/HSYNC (io), 15 VLPF/VSYNC (in), 16 CVIN2 (in), 17 CVIN1 (in), 19 CVOUT (out), 21 4FSCOUT/2FSCOUT (out), 22 4FSCIN/2FSCIN (in), 24 ANB (in), 25 ANA (in), 26 AN9 (in), 27 AN8 (in), 28 P07/AN7 (io), 29 P06/AN6 (io), 30 P05/AN5 (io), 31 P04/AN4 (io), 32 P03/AN3 (io), 33 P02/AN2 (io), 34 P01/AN1 (io), 35 P00/AN0 (io), 37 P10/~{IRQ0} (io), 38 P11/~{IRQ1} (io), 39 P12/~{IRQ2} (io), 40 P13/~{IRQ3} (io), 41 P14/~{IRQ4} (io), 42 P15/~{IRQ5} (io), 43 P16/~{IC} (io), 44 P17/TMOW (io), 45 P67/RP7/TMBI (io), 46 P66/RP6/~{ADTRG} (io), 47 P65/RP5 (io), 48 P64/RP4 (io), 49 P63/RP3 (io), 50 P62/RP2 (io), 51 P61/RP1 (io), 52 P60/RP0 (io), 53 P37/TMO (io), 54 P36/BUZZ (io), 55 P35/PWM3 (io), 58 P27/SYNCI (io), 59 P26/SCL0 (io), 60 P25/SDA0 (io), 61 P24/SCL1 (io), 62 P23/SDA1 (io), 63 P22/SCK1 (io), 64 P20/SI1 (io), 65 P21/SO1 (io), 66 P47/RPTRG (io), 67 P46/FTOB (io), 68 P45/FTOA (io), 69 P44/FTID (io), 70 P43/FTIC (io), 71 P42/FTIB (io), 72 P41/FTIA (io), 73 P40/PWM14 (io), 74 FWE (in), 75 X2 (in), 76 X1 (in), 77 ~{RES} (in), 78 OSC1 (in), 80 OSC2 (in), 82 MD0 (in), 83 P34/PWM2 (io), 84 P33/PWM1 (io), 85 P32/PWM0 (io), 86 P31/SV2 (io), 87 P30/SV1 (io), 88 P70/PPG0 (io), 89 P71/PPG1 (io), 90 P72/PPG2 (io), 91 P73/PPG3 (io), 92 P74/PPG4/RP8 (io), 93 P75/PPG5/RP9 (io), 94 P76/PPG6/RPA (io), 95 P77/PPG7/RPB (io), 96 P80/YCO (io), 97 P81/EXCAP/YBO (io), 98 P82/EXCTL (io), 99 P83/C.ROTARY/R (io), 100 P84/H.AMP SW/G (io), 101 P85/COMP/B (io), 102 P86/EXTTRG (io), 103 P87/DPG (io), 104 DFG (in), 105 VIDEO FF (out), 106 AUDIO FF (out), 107 DRM PWM (out), 108 CAP PWM (out), 109 VPULSE (out), 111 CSYNC (in)
part B pins: 1 SVSS (power), 10 SVCC (power), 18 OVCC (power), 20 OVSS (power), 23 AVSS (power), 36 AVCC (power), 56 VCC (power), 57 VSS (power), 79 VSS (power), 81 VCL, 110 VSS (power), 112 VCC (power)

## HD6432196SXXXF
designator U?
Mask ROM H8S/2100 Series, 2199 Group MCU, 80K ROM, 3K RAM, FP-112 Pkg; Published: 28-Aug-2009; DatasheetVersion: Rev.2.00, Jan-2007; PackageVersion: Sep-2005; PackageReference: PRQP0112JA-A; Publisher: Altium Limited; PackageDescription: 112-Pin Plastic Quad Flat Pack, 20 x 20 x 2.7 mm Body, 0.65 mm Pitch; Code_JEITA: P-QFP112-20x20-0.65; ComponentLink1Description: Manufacturer Link; ComponentLink1URL: http://sg.renesas.com/fmwk.jsp?cnt=h8s_family_landing.jsp&fp=/products/mpumcu/h8s_family/; ComponentLink2Description: Datasheet; ComponentLink2URL: http://documentation.renesas.com/eng/products/mpumcu/rej09b0329_2199rhm.pdf; ComponentLink3Description: Packaging Specification; ComponentLink3URL: http://sg.renesas.com/media/products/common_info/package/pdf/ic/code/prqp0112ja_a.pdf
footprint PRQP0112JA-A_N (QFP, 112-Leads, Body 20x20mm, Pitch 0.65mm, IPC Medium Density)
footprint PRQP0112JA-A_L (QFP, 112-Leads, Body 20x20mm, Pitch 0.65mm, IPC High Density)
footprint PRQP0112JA-A_M (QFP, 112-Leads, Body 20x20mm, Pitch 0.65mm, IPC Low Density)
part A pins: 2 CTLREF (out), 3 CTL(+) (io), 4 CTL(–) (io), 5 CTLBIAS (in), 6 CTLFB (in), 7 CTLAMP(O) (out), 8 CTLSMT(I) (in), 9 CFG (in), 11 AFCPC (io), 12 AFCOSC (io), 13 AFCLPF (io), 14 CSYNC/HSYNC (io), 15 VLPF/VSYNC (in), 16 CVIN2 (in), 17 CVIN1 (in), 19 CVOUT (out), 21 4FSCOUT/2FSCOUT (out), 22 4FSCIN/2FSCIN (in), 24 ANB (in), 25 ANA (in), 26 AN9 (in), 27 AN8 (in), 28 P07/AN7 (io), 29 P06/AN6 (io), 30 P05/AN5 (io), 31 P04/AN4 (io), 32 P03/AN3 (io), 33 P02/AN2 (io), 34 P01/AN1 (io), 35 P00/AN0 (io), 37 P10/~{IRQ0} (io), 38 P11/~{IRQ1} (io), 39 P12/~{IRQ2} (io), 40 P13/~{IRQ3} (io), 41 P14/~{IRQ4} (io), 42 P15/~{IRQ5} (io), 43 P16/~{IC} (io), 44 P17/TMOW (io), 45 P67/RP7/TMBI (io), 46 P66/RP6/~{ADTRG} (io), 47 P65/RP5 (io), 48 P64/RP4 (io), 49 P63/RP3 (io), 50 P62/RP2 (io), 51 P61/RP1 (io), 52 P60/RP0 (io), 53 P37/TMO (io), 54 P36/BUZZ (io), 55 P35 (io), 58 P27 (io), 59 P26 (io), 60 P25 (io), 61 P24/SCL1 (io), 62 P23/SDA1 (io), 63 P22/SCK1 (io), 64 P20/SI1 (io), 65 P21/SO1 (io), 66 P47/RPTRG (io), 67 P46 (io), 68 P45 (io), 69 P44 (io), 70 P43 (io), 71 P42 (io), 72 P41 (io), 73 P40 (io), 74 NC, 75 X2 (in), 76 X1 (in), 77 ~{RES} (in), 78 OSC1 (in), 80 OSC2 (in), 82 MD0 (in), 83 P34 (io), 84 P33/PWM1 (io), 85 P32/PWM0 (io), 86 P31/SV2 (io), 87 P30/SV1 (io), 88 P70/PPG0 (io), 89 P71/PPG1 (io), 90 P72/PPG2 (io), 91 P73/PPG3 (io), 92 P74/PPG4/RP8 (io), 93 P75/PPG5/RP9 (io), 94 P76/PPG6/RPA (io), 95 P77/PPG7/RPB (io), 96 P80/YCO (io), 97 P81/EXCAP/YBO (io), 98 P82/EXCTL (io), 99 P83/C.ROTARY/R (io), 100 P84/H.AMP SW/G (io), 101 P85/COMP/B (io), 102 P86/EXTTRG (io), 103 P87/DPG (io), 104 DFG (in), 105 VIDEO FF (out), 106 AUDIO FF (out), 107 DRM PWM (out), 108 CAP PWM (out), 109 VPULSE (out), 111 CSYNC (in)
part B pins: 1 SVSS (power), 10 SVCC (power), 18 OVCC (power), 20 OVSS (power), 23 AVSS (power), 36 AVCC (power), 56 VCC (power), 57 VSS (power), 79 VSS (power), 81 VCL, 110 VSS (power), 112 VCC (power)

## HD6432197RXXXF
designator U?
Mask ROM H8S/2100 Series, 2199 Group MCU, 96K ROM, 4K RAM, FP-112 Pkg; Published: 28-Aug-2009; DatasheetVersion: Rev.2.00, Jan-2007; PackageVersion: Sep-2005; PackageReference: PRQP0112JA-A; Publisher: Altium Limited; PackageDescription: 112-Pin Plastic Quad Flat Pack, 20 x 20 x 2.7 mm Body, 0.65 mm Pitch; Code_JEITA: P-QFP112-20x20-0.65; ComponentLink1Description: Manufacturer Link; ComponentLink1URL: http://sg.renesas.com/fmwk.jsp?cnt=h8s_family_landing.jsp&fp=/products/mpumcu/h8s_family/; ComponentLink2Description: Datasheet; ComponentLink2URL: http://documentation.renesas.com/eng/products/mpumcu/rej09b0329_2199rhm.pdf; ComponentLink3Description: Packaging Specification; ComponentLink3URL: http://sg.renesas.com/media/products/common_info/package/pdf/ic/code/prqp0112ja_a.pdf
footprint PRQP0112JA-A_N (QFP, 112-Leads, Body 20x20mm, Pitch 0.65mm, IPC Medium Density)
footprint PRQP0112JA-A_L (QFP, 112-Leads, Body 20x20mm, Pitch 0.65mm, IPC High Density)
footprint PRQP0112JA-A_M (QFP, 112-Leads, Body 20x20mm, Pitch 0.65mm, IPC Low Density)
part A pins: 2 CTLREF (out), 3 CTL(+) (io), 4 CTL(-) (io), 5 CTLBIAS (in), 6 CTLFB (in), 7 CTLAMP(O) (out), 8 CTLSMT(I) (in), 9 CFG (in), 11 AFCPC (io), 12 AFCOSC (io), 13 AFCLPF (io), 14 CSYNC/HSYNC (io), 15 VLPF/VSYNC (in), 16 CVIN2 (in), 17 CVIN1 (in), 19 CVOUT (out), 21 4FSCOUT/2FSCOUT (out), 22 4FSCIN/2FSCIN (in), 24 ANB (in), 25 ANA (in), 26 AN9 (in), 27 AN8 (in), 28 P07/AN7 (io), 29 P06/AN6 (io), 30 P05/AN5 (io), 31 P04/AN4 (io), 32 P03/AN3 (io), 33 P02/AN2 (io), 34 P01/AN1 (io), 35 P00/AN0 (io), 37 P10/~{IRQ0} (io), 38 P11/~{IRQ1} (io), 39 P12/~{IRQ2} (io), 40 P13/~{IRQ3} (io), 41 P14/~{IRQ4} (io), 42 P15/~{IRQ5} (io), 43 P16/~{IC} (io), 44 P17/TMOW (io), 45 P67/RP7/TMBI (io), 46 P66/RP6/~{ADTRG} (io), 47 P65/RP5 (io), 48 P64/RP4 (io), 49 P63/RP3 (io), 50 P62/RP2 (io), 51 P61/RP1 (io), 52 P60/RP0 (io), 53 P37/TMO (io), 54 P36/BUZZ (io), 55 P35/PWM3 (io), 58 P27/SYNCI (io), 59 P26/SCL0 (io), 60 P25/SDA0 (io), 61 P24/SCL1 (io), 62 P23/SDA1 (io), 63 P22/SCK1 (io), 64 P20/SI1 (io), 65 P21/SO1 (io), 66 P47/RPTRG (io), 67 P46/FTOB (io), 68 P45/FTOA (io), 69 P44/FTID (io), 70 P43/FTIC (io), 71 P42/FTIB (io), 72 P41/FTIA (io), 73 P40/PWM14 (io), 74 FWE (in), 75 X2 (in), 76 X1 (in), 77 ~{RES} (in), 78 OSC1 (in), 80 OSC2 (in), 82 MD0 (in), 83 P34/PWM2 (io), 84 P33/PWM1 (io), 85 P32/PWM0 (io), 86 P31/SV2 (io), 87 P30/SV1 (io), 88 P70/PPG0 (io), 89 P71/PPG1 (io), 90 P72/PPG2 (io), 91 P73/PPG3 (io), 92 P74/PPG4/RP8 (io), 93 P75/PPG5/RP9 (io), 94 P76/PPG6/RPA (io), 95 P77/PPG7/RPB (io), 96 P80/YCO (io), 97 P81/EXCAP/YBO (io), 98 P82/EXCTL (io), 99 P83/C.ROTARY/R (io), 100 P84/H.AMP SW/G (io), 101 P85/COMP/B (io), 102 P86/EXTTRG (io), 103 P87/DPG (io), 104 DFG (in), 105 VIDEO FF (out), 106 AUDIO FF (out), 107 DRM PWM (out), 108 CAP PWM (out), 109 VPULSE (out), 111 CSYNC (in)
part B pins: 1 SVSS (power), 10 SVCC (power), 18 OVCC (power), 20 OVSS (power), 23 AVSS (power), 36 AVCC (power), 56 VCC (power), 57 VSS (power), 79 VSS (power), 81 VCL, 110 VSS (power), 112 VCC (power)

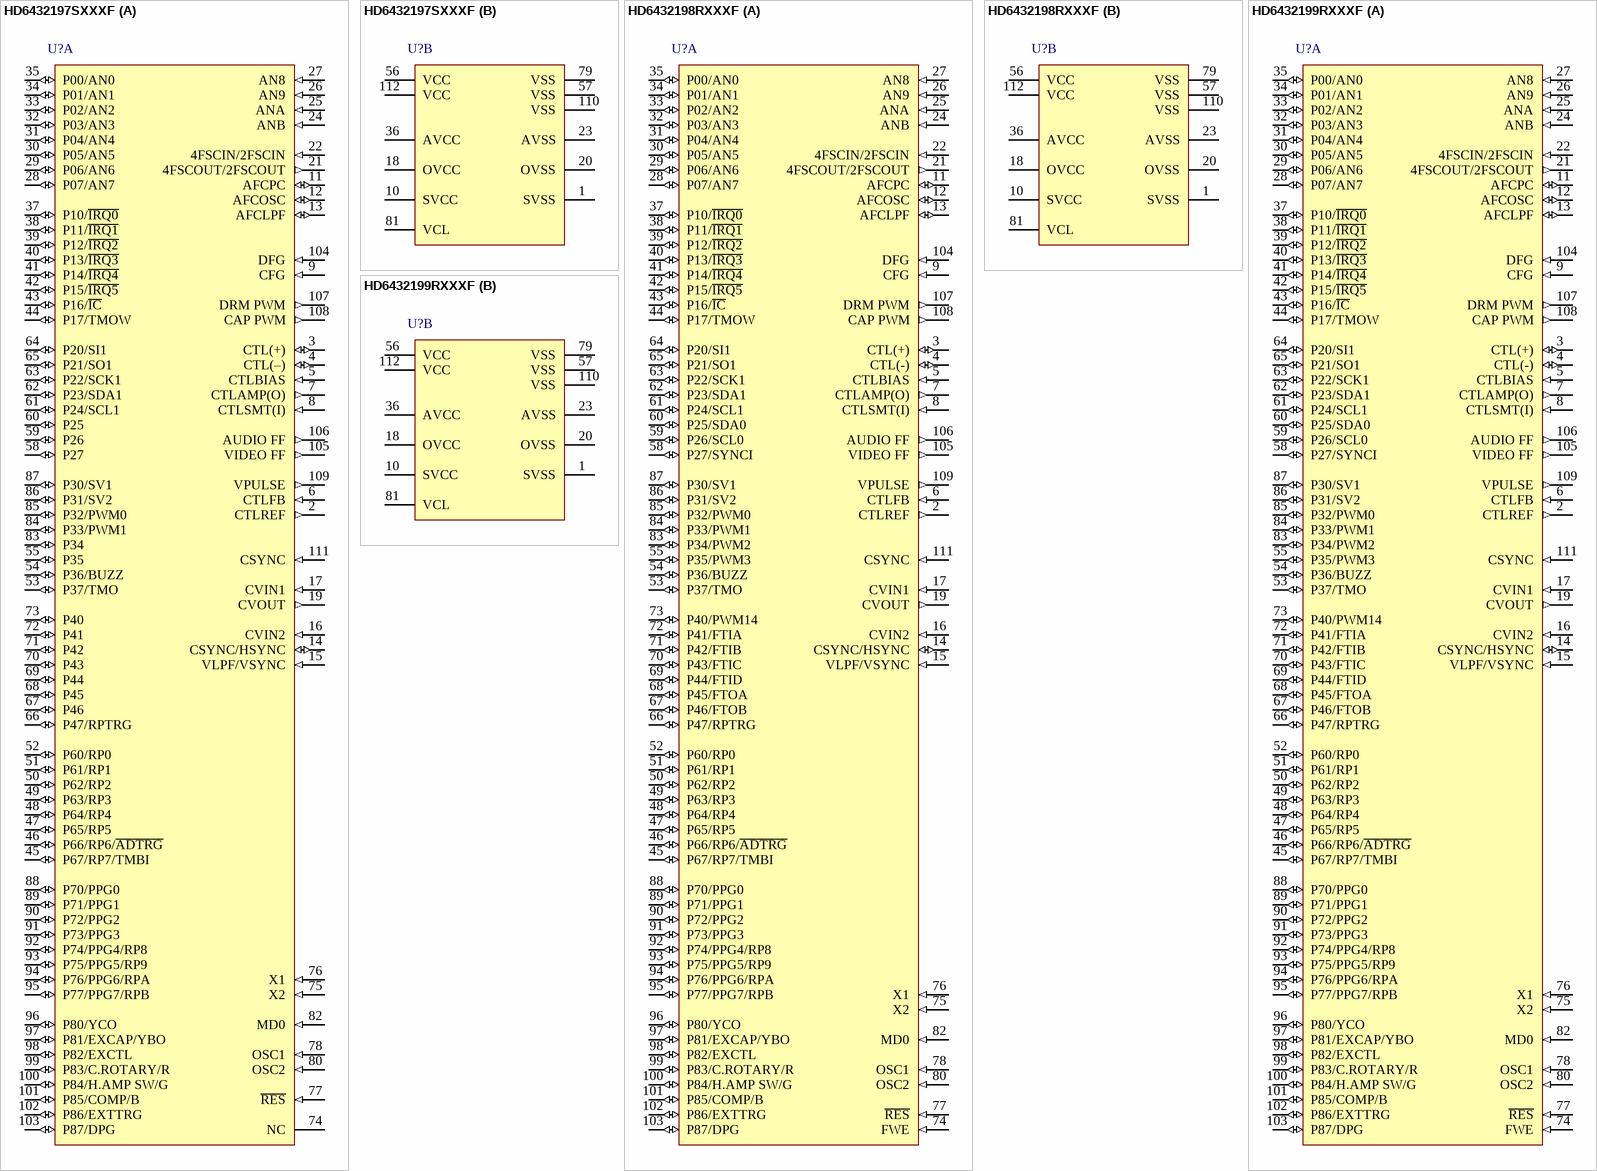
[diagram p123: symbols HD6432197SXXXF to HD6432199RXXXF]

## HD6432197SXXXF
designator U?
Mask ROM H8S/2100 Series, 2199 Group MCU, 96K ROM, 3K RAM, FP-112 Pkg; Published: 28-Aug-2009; DatasheetVersion: Rev.2.00, Jan-2007; PackageVersion: Sep-2005; PackageReference: PRQP0112JA-A; Publisher: Altium Limited; PackageDescription: 112-Pin Plastic Quad Flat Pack, 20 x 20 x 2.7 mm Body, 0.65 mm Pitch; Code_JEITA: P-QFP112-20x20-0.65; ComponentLink1Description: Manufacturer Link; ComponentLink1URL: http://sg.renesas.com/fmwk.jsp?cnt=h8s_family_landing.jsp&fp=/products/mpumcu/h8s_family/; ComponentLink2Description: Datasheet; ComponentLink2URL: http://documentation.renesas.com/eng/products/mpumcu/rej09b0329_2199rhm.pdf; ComponentLink3Description: Packaging Specification; ComponentLink3URL: http://sg.renesas.com/media/products/common_info/package/pdf/ic/code/prqp0112ja_a.pdf
footprint PRQP0112JA-A_N (QFP, 112-Leads, Body 20x20mm, Pitch 0.65mm, IPC Medium Density)
footprint PRQP0112JA-A_L (QFP, 112-Leads, Body 20x20mm, Pitch 0.65mm, IPC High Density)
footprint PRQP0112JA-A_M (QFP, 112-Leads, Body 20x20mm, Pitch 0.65mm, IPC Low Density)
part A pins: 2 CTLREF (out), 3 CTL(+) (io), 4 CTL(–) (io), 5 CTLBIAS (in), 6 CTLFB (in), 7 CTLAMP(O) (out), 8 CTLSMT(I) (in), 9 CFG (in), 11 AFCPC (io), 12 AFCOSC (io), 13 AFCLPF (io), 14 CSYNC/HSYNC (io), 15 VLPF/VSYNC (in), 16 CVIN2 (in), 17 CVIN1 (in), 19 CVOUT (out), 21 4FSCOUT/2FSCOUT (out), 22 4FSCIN/2FSCIN (in), 24 ANB (in), 25 ANA (in), 26 AN9 (in), 27 AN8 (in), 28 P07/AN7 (io), 29 P06/AN6 (io), 30 P05/AN5 (io), 31 P04/AN4 (io), 32 P03/AN3 (io), 33 P02/AN2 (io), 34 P01/AN1 (io), 35 P00/AN0 (io), 37 P10/~{IRQ0} (io), 38 P11/~{IRQ1} (io), 39 P12/~{IRQ2} (io), 40 P13/~{IRQ3} (io), 41 P14/~{IRQ4} (io), 42 P15/~{IRQ5} (io), 43 P16/~{IC} (io), 44 P17/TMOW (io), 45 P67/RP7/TMBI (io), 46 P66/RP6/~{ADTRG} (io), 47 P65/RP5 (io), 48 P64/RP4 (io), 49 P63/RP3 (io), 50 P62/RP2 (io), 51 P61/RP1 (io), 52 P60/RP0 (io), 53 P37/TMO (io), 54 P36/BUZZ (io), 55 P35 (io), 58 P27 (io), 59 P26 (io), 60 P25 (io), 61 P24/SCL1 (io), 62 P23/SDA1 (io), 63 P22/SCK1 (io), 64 P20/SI1 (io), 65 P21/SO1 (io), 66 P47/RPTRG (io), 67 P46 (io), 68 P45 (io), 69 P44 (io), 70 P43 (io), 71 P42 (io), 72 P41 (io), 73 P40 (io), 74 NC, 75 X2 (in), 76 X1 (in), 77 ~{RES} (in), 78 OSC1 (in), 80 OSC2 (in), 82 MD0 (in), 83 P34 (io), 84 P33/PWM1 (io), 85 P32/PWM0 (io), 86 P31/SV2 (io), 87 P30/SV1 (io), 88 P70/PPG0 (io), 89 P71/PPG1 (io), 90 P72/PPG2 (io), 91 P73/PPG3 (io), 92 P74/PPG4/RP8 (io), 93 P75/PPG5/RP9 (io), 94 P76/PPG6/RPA (io), 95 P77/PPG7/RPB (io), 96 P80/YCO (io), 97 P81/EXCAP/YBO (io), 98 P82/EXCTL (io), 99 P83/C.ROTARY/R (io), 100 P84/H.AMP SW/G (io), 101 P85/COMP/B (io), 102 P86/EXTTRG (io), 103 P87/DPG (io), 104 DFG (in), 105 VIDEO FF (out), 106 AUDIO FF (out), 107 DRM PWM (out), 108 CAP PWM (out), 109 VPULSE (out), 111 CSYNC (in)
part B pins: 1 SVSS (power), 10 SVCC (power), 18 OVCC (power), 20 OVSS (power), 23 AVSS (power), 36 AVCC (power), 56 VCC (power), 57 VSS (power), 79 VSS (power), 81 VCL, 110 VSS (power), 112 VCC (power)

## HD6432198RXXXF
designator U?
Mask ROM H8S/2100 Series, 2199 Group MCU, 112K ROM, 4K RAM, FP-112 Pkg; Published: 28-Aug-2009; DatasheetVersion: Rev.2.00, Jan-2007; PackageVersion: Sep-2005; PackageReference: PRQP0112JA-A; Publisher: Altium Limited; PackageDescription: 112-Pin Plastic Quad Flat Pack, 20 x 20 x 2.7 mm Body, 0.65 mm Pitch; Code_JEITA: P-QFP112-20x20-0.65; ComponentLink1Description: Manufacturer Link; ComponentLink1URL: http://sg.renesas.com/fmwk.jsp?cnt=h8s_family_landing.jsp&fp=/products/mpumcu/h8s_family/; ComponentLink2Description: Datasheet; ComponentLink2URL: http://documentation.renesas.com/eng/products/mpumcu/rej09b0329_2199rhm.pdf; ComponentLink3Description: Packaging Specification; ComponentLink3URL: http://sg.renesas.com/media/products/common_info/package/pdf/ic/code/prqp0112ja_a.pdf
footprint PRQP0112JA-A_N (QFP, 112-Leads, Body 20x20mm, Pitch 0.65mm, IPC Medium Density)
footprint PRQP0112JA-A_L (QFP, 112-Leads, Body 20x20mm, Pitch 0.65mm, IPC High Density)
footprint PRQP0112JA-A_M (QFP, 112-Leads, Body 20x20mm, Pitch 0.65mm, IPC Low Density)
part A pins: 2 CTLREF (out), 3 CTL(+) (io), 4 CTL(-) (io), 5 CTLBIAS (in), 6 CTLFB (in), 7 CTLAMP(O) (out), 8 CTLSMT(I) (in), 9 CFG (in), 11 AFCPC (io), 12 AFCOSC (io), 13 AFCLPF (io), 14 CSYNC/HSYNC (io), 15 VLPF/VSYNC (in), 16 CVIN2 (in), 17 CVIN1 (in), 19 CVOUT (out), 21 4FSCOUT/2FSCOUT (out), 22 4FSCIN/2FSCIN (in), 24 ANB (in), 25 ANA (in), 26 AN9 (in), 27 AN8 (in), 28 P07/AN7 (io), 29 P06/AN6 (io), 30 P05/AN5 (io), 31 P04/AN4 (io), 32 P03/AN3 (io), 33 P02/AN2 (io), 34 P01/AN1 (io), 35 P00/AN0 (io), 37 P10/~{IRQ0} (io), 38 P11/~{IRQ1} (io), 39 P12/~{IRQ2} (io), 40 P13/~{IRQ3} (io), 41 P14/~{IRQ4} (io), 42 P15/~{IRQ5} (io), 43 P16/~{IC} (io), 44 P17/TMOW (io), 45 P67/RP7/TMBI (io), 46 P66/RP6/~{ADTRG} (io), 47 P65/RP5 (io), 48 P64/RP4 (io), 49 P63/RP3 (io), 50 P62/RP2 (io), 51 P61/RP1 (io), 52 P60/RP0 (io), 53 P37/TMO (io), 54 P36/BUZZ (io), 55 P35/PWM3 (io), 58 P27/SYNCI (io), 59 P26/SCL0 (io), 60 P25/SDA0 (io), 61 P24/SCL1 (io), 62 P23/SDA1 (io), 63 P22/SCK1 (io), 64 P20/SI1 (io), 65 P21/SO1 (io), 66 P47/RPTRG (io), 67 P46/FTOB (io), 68 P45/FTOA (io), 69 P44/FTID (io), 70 P43/FTIC (io), 71 P42/FTIB (io), 72 P41/FTIA (io), 73 P40/PWM14 (io), 74 FWE (in), 75 X2 (in), 76 X1 (in), 77 ~{RES} (in), 78 OSC1 (in), 80 OSC2 (in), 82 MD0 (in), 83 P34/PWM2 (io), 84 P33/PWM1 (io), 85 P32/PWM0 (io), 86 P31/SV2 (io), 87 P30/SV1 (io), 88 P70/PPG0 (io), 89 P71/PPG1 (io), 90 P72/PPG2 (io), 91 P73/PPG3 (io), 92 P74/PPG4/RP8 (io), 93 P75/PPG5/RP9 (io), 94 P76/PPG6/RPA (io), 95 P77/PPG7/RPB (io), 96 P80/YCO (io), 97 P81/EXCAP/YBO (io), 98 P82/EXCTL (io), 99 P83/C.ROTARY/R (io), 100 P84/H.AMP SW/G (io), 101 P85/COMP/B (io), 102 P86/EXTTRG (io), 103 P87/DPG (io), 104 DFG (in), 105 VIDEO FF (out), 106 AUDIO FF (out), 107 DRM PWM (out), 108 CAP PWM (out), 109 VPULSE (out), 111 CSYNC (in)
part B pins: 1 SVSS (power), 10 SVCC (power), 18 OVCC (power), 20 OVSS (power), 23 AVSS (power), 36 AVCC (power), 56 VCC (power), 57 VSS (power), 79 VSS (power), 81 VCL, 110 VSS (power), 112 VCC (power)

## HD6432199RXXXF
designator U?
Mask ROM H8S/2100 Series, 2199 Group MCU, 128K ROM, 4K RAM, FP-112 Pkg; Published: 28-Aug-2009; DatasheetVersion: Rev.2.00, Jan-2007; PackageVersion: Sep-2005; PackageReference: PRQP0112JA-A; Publisher: Altium Limited; PackageDescription: 112-Pin Plastic Quad Flat Pack, 20 x 20 x 2.7 mm Body, 0.65 mm Pitch; Code_JEITA: P-QFP112-20x20-0.65; ComponentLink1Description: Manufacturer Link; ComponentLink1URL: http://sg.renesas.com/fmwk.jsp?cnt=h8s_family_landing.jsp&fp=/products/mpumcu/h8s_family/; ComponentLink2Description: Datasheet; ComponentLink2URL: http://documentation.renesas.com/eng/products/mpumcu/rej09b0329_2199rhm.pdf; ComponentLink3Description: Packaging Specification; ComponentLink3URL: http://sg.renesas.com/media/products/common_info/package/pdf/ic/code/prqp0112ja_a.pdf
footprint PRQP0112JA-A_N (QFP, 112-Leads, Body 20x20mm, Pitch 0.65mm, IPC Medium Density)
footprint PRQP0112JA-A_L (QFP, 112-Leads, Body 20x20mm, Pitch 0.65mm, IPC High Density)
footprint PRQP0112JA-A_M (QFP, 112-Leads, Body 20x20mm, Pitch 0.65mm, IPC Low Density)
part A pins: 2 CTLREF (out), 3 CTL(+) (io), 4 CTL(-) (io), 5 CTLBIAS (in), 6 CTLFB (in), 7 CTLAMP(O) (out), 8 CTLSMT(I) (in), 9 CFG (in), 11 AFCPC (io), 12 AFCOSC (io), 13 AFCLPF (io), 14 CSYNC/HSYNC (io), 15 VLPF/VSYNC (in), 16 CVIN2 (in), 17 CVIN1 (in), 19 CVOUT (out), 21 4FSCOUT/2FSCOUT (out), 22 4FSCIN/2FSCIN (in), 24 ANB (in), 25 ANA (in), 26 AN9 (in), 27 AN8 (in), 28 P07/AN7 (io), 29 P06/AN6 (io), 30 P05/AN5 (io), 31 P04/AN4 (io), 32 P03/AN3 (io), 33 P02/AN2 (io), 34 P01/AN1 (io), 35 P00/AN0 (io), 37 P10/~{IRQ0} (io), 38 P11/~{IRQ1} (io), 39 P12/~{IRQ2} (io), 40 P13/~{IRQ3} (io), 41 P14/~{IRQ4} (io), 42 P15/~{IRQ5} (io), 43 P16/~{IC} (io), 44 P17/TMOW (io), 45 P67/RP7/TMBI (io), 46 P66/RP6/~{ADTRG} (io), 47 P65/RP5 (io), 48 P64/RP4 (io), 49 P63/RP3 (io), 50 P62/RP2 (io), 51 P61/RP1 (io), 52 P60/RP0 (io), 53 P37/TMO (io), 54 P36/BUZZ (io), 55 P35/PWM3 (io), 58 P27/SYNCI (io), 59 P26/SCL0 (io), 60 P25/SDA0 (io), 61 P24/SCL1 (io), 62 P23/SDA1 (io), 63 P22/SCK1 (io), 64 P20/SI1 (io), 65 P21/SO1 (io), 66 P47/RPTRG (io), 67 P46/FTOB (io), 68 P45/FTOA (io), 69 P44/FTID (io), 70 P43/FTIC (io), 71 P42/FTIB (io), 72 P41/FTIA (io), 73 P40/PWM14 (io), 74 FWE (in), 75 X2 (in), 76 X1 (in), 77 ~{RES} (in), 78 OSC1 (in), 80 OSC2 (in), 82 MD0 (in), 83 P34/PWM2 (io), 84 P33/PWM1 (io), 85 P32/PWM0 (io), 86 P31/SV2 (io), 87 P30/SV1 (io), 88 P70/PPG0 (io), 89 P71/PPG1 (io), 90 P72/PPG2 (io), 91 P73/PPG3 (io), 92 P74/PPG4/RP8 (io), 93 P75/PPG5/RP9 (io), 94 P76/PPG6/RPA (io), 95 P77/PPG7/RPB (io), 96 P80/YCO (io), 97 P81/EXCAP/YBO (io), 98 P82/EXCTL (io), 99 P83/C.ROTARY/R (io), 100 P84/H.AMP SW/G (io), 101 P85/COMP/B (io), 102 P86/EXTTRG (io), 103 P87/DPG (io), 104 DFG (in), 105 VIDEO FF (out), 106 AUDIO FF (out), 107 DRM PWM (out), 108 CAP PWM (out), 109 VPULSE (out), 111 CSYNC (in)
part B pins: 1 SVSS (power), 10 SVCC (power), 18 OVCC (power), 20 OVSS (power), 23 AVSS (power), 36 AVCC (power), 56 VCC (power), 57 VSS (power), 79 VSS (power), 81 VCL, 110 VSS (power), 112 VCC (power)

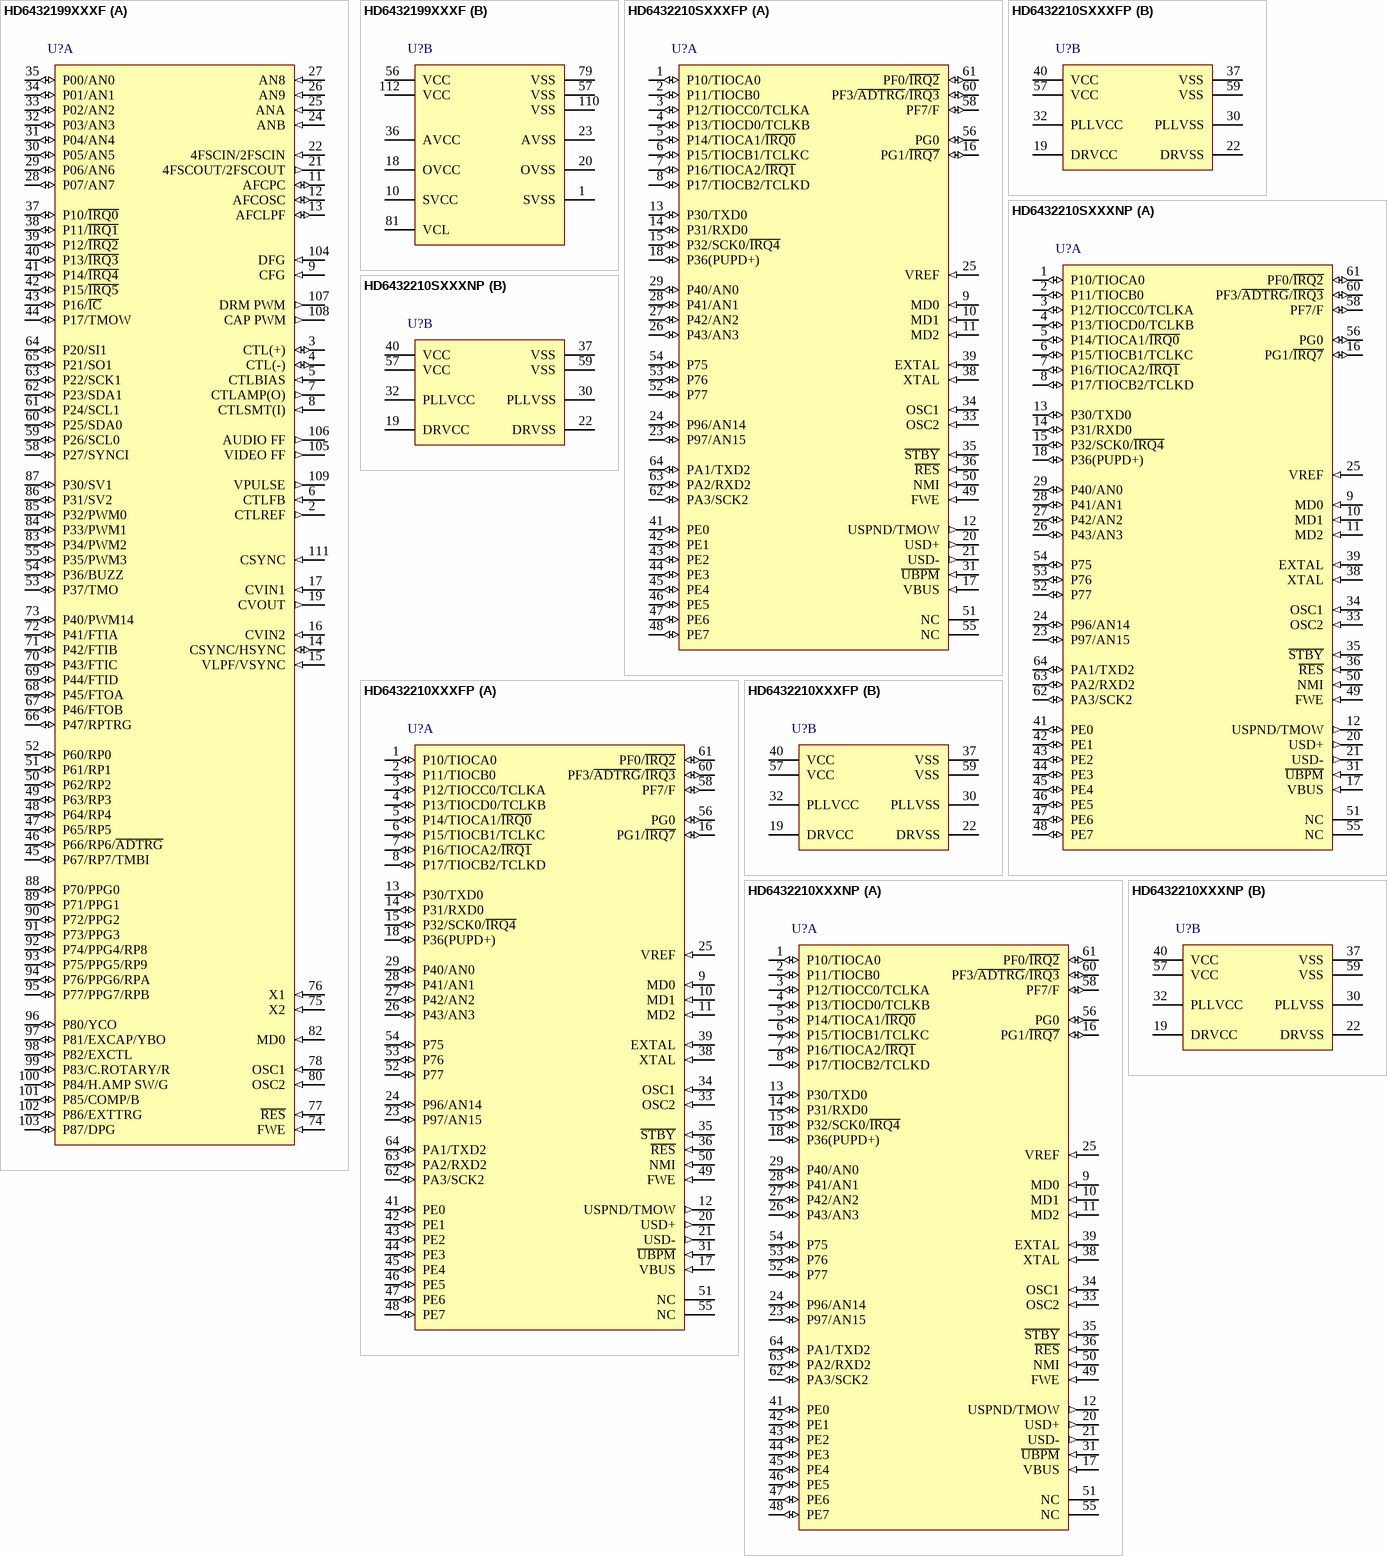
[diagram p124: symbols HD6432199XXXF to HD6432210XXXNP]

## HD6432199XXXF
designator U?
Mask ROM H8S/2100 Series, 2199 Group MCU, 128K ROM, 3K RAM, FP-112 Pkg; Published: 28-Aug-2009; DatasheetVersion: Rev.2.00, Jan-2007; PackageVersion: Sep-2005; PackageReference: PRQP0112JA-A; Publisher: Altium Limited; PackageDescription: 112-Pin Plastic Quad Flat Pack, 20 x 20 x 2.7 mm Body, 0.65 mm Pitch; Code_JEITA: P-QFP112-20x20-0.65; ComponentLink1Description: Manufacturer Link; ComponentLink1URL: http://sg.renesas.com/fmwk.jsp?cnt=h8s_family_landing.jsp&fp=/products/mpumcu/h8s_family/; ComponentLink2Description: Datasheet; ComponentLink2URL: http://documentation.renesas.com/eng/products/mpumcu/rej09b0329_2199rhm.pdf; ComponentLink3Description: Packaging Specification; ComponentLink3URL: http://sg.renesas.com/media/products/common_info/package/pdf/ic/code/prqp0112ja_a.pdf
footprint PRQP0112JA-A_N (QFP, 112-Leads, Body 20x20mm, Pitch 0.65mm, IPC Medium Density)
footprint PRQP0112JA-A_L (QFP, 112-Leads, Body 20x20mm, Pitch 0.65mm, IPC High Density)
footprint PRQP0112JA-A_M (QFP, 112-Leads, Body 20x20mm, Pitch 0.65mm, IPC Low Density)
part A pins: 2 CTLREF (out), 3 CTL(+) (io), 4 CTL(-) (io), 5 CTLBIAS (in), 6 CTLFB (in), 7 CTLAMP(O) (out), 8 CTLSMT(I) (in), 9 CFG (in), 11 AFCPC (io), 12 AFCOSC (io), 13 AFCLPF (io), 14 CSYNC/HSYNC (io), 15 VLPF/VSYNC (in), 16 CVIN2 (in), 17 CVIN1 (in), 19 CVOUT (out), 21 4FSCOUT/2FSCOUT (out), 22 4FSCIN/2FSCIN (in), 24 ANB (in), 25 ANA (in), 26 AN9 (in), 27 AN8 (in), 28 P07/AN7 (io), 29 P06/AN6 (io), 30 P05/AN5 (io), 31 P04/AN4 (io), 32 P03/AN3 (io), 33 P02/AN2 (io), 34 P01/AN1 (io), 35 P00/AN0 (io), 37 P10/~{IRQ0} (io), 38 P11/~{IRQ1} (io), 39 P12/~{IRQ2} (io), 40 P13/~{IRQ3} (io), 41 P14/~{IRQ4} (io), 42 P15/~{IRQ5} (io), 43 P16/~{IC} (io), 44 P17/TMOW (io), 45 P67/RP7/TMBI (io), 46 P66/RP6/~{ADTRG} (io), 47 P65/RP5 (io), 48 P64/RP4 (io), 49 P63/RP3 (io), 50 P62/RP2 (io), 51 P61/RP1 (io), 52 P60/RP0 (io), 53 P37/TMO (io), 54 P36/BUZZ (io), 55 P35/PWM3 (io), 58 P27/SYNCI (io), 59 P26/SCL0 (io), 60 P25/SDA0 (io), 61 P24/SCL1 (io), 62 P23/SDA1 (io), 63 P22/SCK1 (io), 64 P20/SI1 (io), 65 P21/SO1 (io), 66 P47/RPTRG (io), 67 P46/FTOB (io), 68 P45/FTOA (io), 69 P44/FTID (io), 70 P43/FTIC (io), 71 P42/FTIB (io), 72 P41/FTIA (io), 73 P40/PWM14 (io), 74 FWE (in), 75 X2 (in), 76 X1 (in), 77 ~{RES} (in), 78 OSC1 (in), 80 OSC2 (in), 82 MD0 (in), 83 P34/PWM2 (io), 84 P33/PWM1 (io), 85 P32/PWM0 (io), 86 P31/SV2 (io), 87 P30/SV1 (io), 88 P70/PPG0 (io), 89 P71/PPG1 (io), 90 P72/PPG2 (io), 91 P73/PPG3 (io), 92 P74/PPG4/RP8 (io), 93 P75/PPG5/RP9 (io), 94 P76/PPG6/RPA (io), 95 P77/PPG7/RPB (io), 96 P80/YCO (io), 97 P81/EXCAP/YBO (io), 98 P82/EXCTL (io), 99 P83/C.ROTARY/R (io), 100 P84/H.AMP SW/G (io), 101 P85/COMP/B (io), 102 P86/EXTTRG (io), 103 P87/DPG (io), 104 DFG (in), 105 VIDEO FF (out), 106 AUDIO FF (out), 107 DRM PWM (out), 108 CAP PWM (out), 109 VPULSE (out), 111 CSYNC (in)
part B pins: 1 SVSS (power), 10 SVCC (power), 18 OVCC (power), 20 OVSS (power), 23 AVSS (power), 36 AVCC (power), 56 VCC (power), 57 VSS (power), 79 VSS (power), 81 VCL, 110 VSS (power), 112 VCC (power)

## HD6432210SXXXFP
designator U?
Mask ROM H8S/2200 Series, 2212 Group MCU, 32K ROM, 4K RAM, FP-64E Pkg; Published: 28-Aug-2009; DatasheetVersion: Rev.7.00, Dec-2008; PackageVersion: Sep-2005; PackageReference: PLQP0064KC-A; Publisher: Altium Limited; PackageDescription: 64-Pin Plastic Low Profile QFP, 10 x 10 x 1.45 mm Body, 0.5 mm Pitch; Code_JEITA: P-LQFP64-10x10-0.50; Code_IPC: SQFP50P1200X1200-64; ComponentLink1Description: Manufacturer Link; ComponentLink1URL: http://sg.renesas.com/fmwk.jsp?cnt=h8s_family_landing.jsp&fp=/products/mpumcu/h8s_family/; ComponentLink2Description: Datasheet; ComponentLink2URL: http://documentation.renesas.com/eng/products/mpumcu/rej09b0074_h8s2212.pdf; ComponentLink3Description: Packaging Specification; ComponentLink3URL: http://sg.renesas.com/media/products/common_info/package/pdf/ic/code/plqp0064kc_a.pdf
footprint PLQP0064KC-A_N (Shrink QFP, 64-Leads, Body 10x10mm, Pitch 0.5mm, IPC Medium Density)
footprint PLQP0064KC-A_L (Shrink QFP, 64-Leads, Body 10x10mm, Pitch 0.5mm, IPC High Density)
footprint PLQP0064KC-A_M (Shrink QFP, 64-Leads, Body 10x10mm, Pitch 0.5mm, IPC Low Density)
part A pins: 1 P10/TIOCA0 (io), 2 P11/TIOCB0 (io), 3 P12/TIOCC0/TCLKA (io), 4 P13/TIOCD0/TCLKB (io), 5 P14/TIOCA1/~{IRQ0} (io), 6 P15/TIOCB1/TCLKC (io), 7 P16/TIOCA2/~{IRQ1} (io), 8 P17/TIOCB2/TCLKD (io), 9 MD0 (in), 10 MD1 (in), 11 MD2 (in), 12 USPND/TMOW (out), 13 P30/TXD0 (io), 14 P31/RXD0 (io), 15 P32/SCK0/~{IRQ4} (io), 16 PG1/~{IRQ7} (io), 17 VBUS (in), 18 P36(PUPD+) (io), 20 USD+ (out), 21 USD- (out), 23 P97/AN15 (io), 24 P96/AN14 (io), 25 VREF (in), 26 P43/AN3 (io), 27 P42/AN2 (io), 28 P41/AN1 (io), 29 P40/AN0 (io), 31 ~{UBPM} (in), 33 OSC2 (in), 34 OSC1 (in), 35 ~{STBY} (in), 36 ~{RES} (in), 38 XTAL (in), 39 EXTAL (in), 41 PE0 (io), 42 PE1 (io), 43 PE2 (io), 44 PE3 (io), 45 PE4 (io), 46 PE5 (io), 47 PE6 (io), 48 PE7 (io), 49 FWE (in), 50 NMI (in), 51 NC, 52 P77 (io), 53 P76 (io), 54 P75 (io), 55 NC, 56 PG0 (io), 58 PF7/F (io), 60 PF3/~{ADTRG}/~{IRQ3} (io), 61 PF0/~{IRQ2} (io), 62 PA3/SCK2 (io), 63 PA2/RXD2 (io), 64 PA1/TXD2 (io)
part B pins: 19 DRVCC (power), 22 DRVSS (power), 30 PLLVSS (power), 32 PLLVCC (power), 37 VSS (power), 40 VCC (power), 57 VCC (power), 59 VSS (power)